# Altium integrated library TI Digital Signal Processor 32-Bit.IntLib: 121 symbols (part 10 of 13)
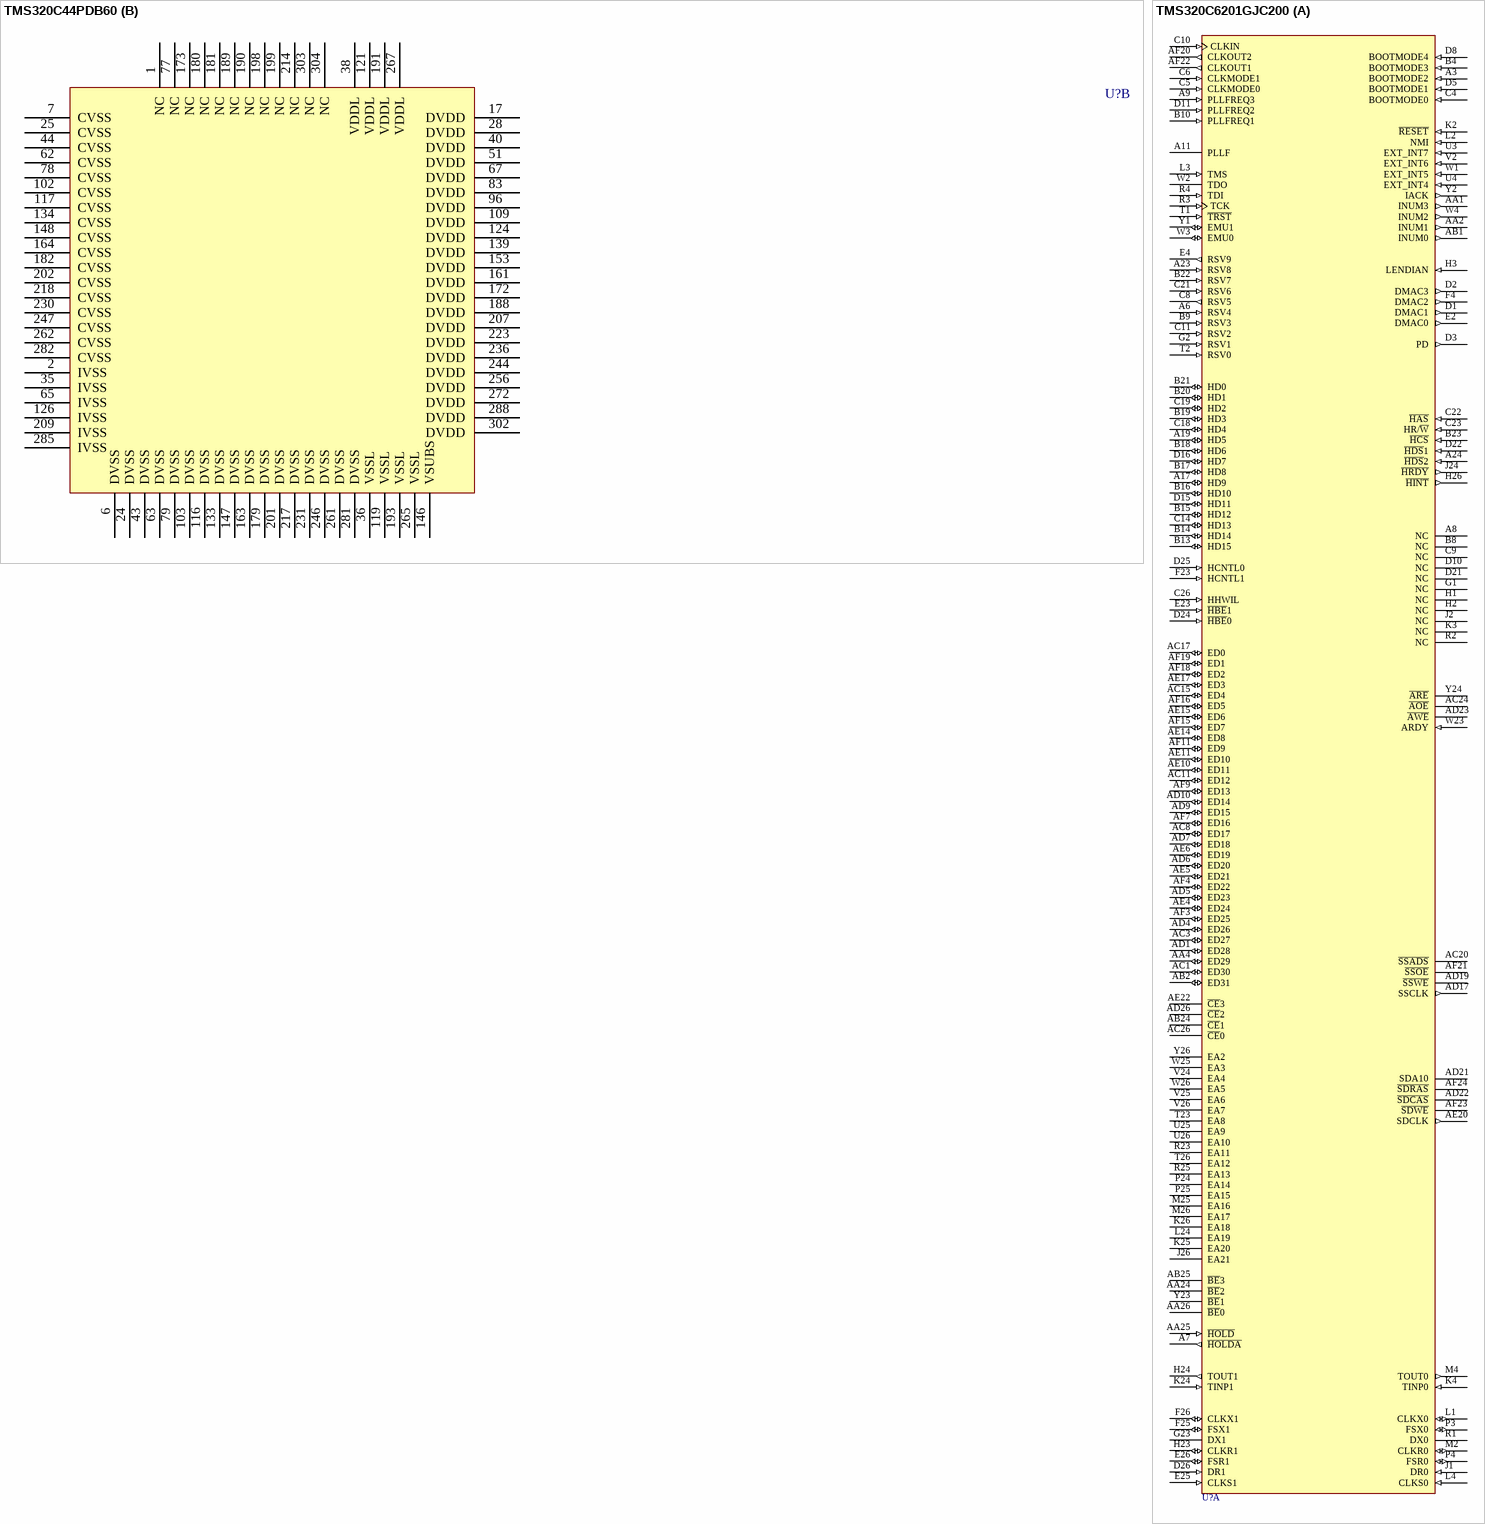
[diagram p139: symbols TMS320C44PDB60 to TMS320C6201GJC200]

## TMS320C44PDB60
designator U?
Floating DSP; Published: 25-Jan-2001; LatestRevisionDate: 13-Apr-2006; LatestRevisionNote: IPC-7351 Footprint Added.; DatasheetVersion: Dec-1995; PackageVersion: May-1999; PackageReference: PDB304; Publisher: Altium Limited; PackageDescription: 304-Pin Shrink Quad Flat Pack 0.5 mm Pitch; ComponentLink1Description: Manufacturer Link; ComponentLink1URL: http://www.ti.com/; ComponentLink2Description: Datasheet; ComponentLink2URL: http://www-s.ti.com/sc/ds/tms320c44.pdf
footprint PDB304_N (Shrink QFP, 304-Leads, Body 40x40mm, Pitch 0.5mm, IPC Medium Density)
footprint PDB304_L (Shrink QFP, 304-Leads, Body 40x40mm, Pitch 0.5mm, IPC High Density)
footprint PDB304_M (Shrink QFP, 304-Leads, Body 40x40mm, Pitch 0.5mm, IPC Low Density)
3D model TMS320C44-PDB304 (304-Pin Shrink Quad Flat Pack 0.5 mm Pitch)
part A pins: 3 ~{NMI} (in), 4 ~{IIOF}3 (io), 5 ~{IIOF}2 (io), 8 ~{CRDY}1 (io), 9 ~{IIOF}1 (io), 10 ~{IIOF}0 (io), 11 ~{CREQ}1 (io), 12 ROMEN (in), 13 ~{CACK}1 (io), 14 ~{CSTB}1 (io), 15 CDIR5 (out), 16 CDIR4 (out), 18 CDIR2 (out), 19 CDIR1 (out), 20 ~{CREQ}2 (io), 21 ~{CACK}2 (io), 22 ~{CSTB}2 (io), 23 ~{CRDY}2 (io), 26 C2D0 (io), 27 C2D1 (io), 29 C2D2 (io), 30 C2D3 (io), 31 C2D4 (io), 32 C2D5 (io), 33 C2D6 (io), 34 C2D7 (io), 37 C5D0 (io), 39 C5D1 (io), 41 C5D2 (io), 42 C5D3 (io), 45 C5D4 (io), 46 C5D5 (io), 47 C5D6 (io), 48 C5D7 (io), 49 ~{CREQ}5 (io), 50 ~{CACK}5 (io), 52 ~{CSTB}5 (io), 53 ~{CRDY}5 (io), 54 ~{RESET} (in), 55 RESETLOC0 (in), 56 RESETLOC1 (in), 57 ~{AE} (in), 58 ~{STRB}0 (hiz), 59 R/~{W}0 (hiz), 60 PAGE0 (hiz), 61 STAT3 (out), 64 STAT2 (out), 66 STAT1 (out), 68 STAT0 (out), 69 ~{STRB}1 (hiz), 70 R/~{W}1 (hiz), 71 ~{CREQ}4 (io), 72 PAGE1 (hiz), 73 ~{CACK}4 (io), 74 EMU1 (io), 75 EMU0 (io), 76 TDI (in), 80 TDO (hiz), 81 ~{TRST} (in), 82 TMS (in), 84 ~{CSTB}4 (io), 85 ~{CRDY}4 (io), 86 TCK (in), 87 C4D0 (io), 88 C4D1 (io), 89 ~{DE} (in), 90 C4D2 (io), 91 ~{RDY}0 (in), 92 C4D3 (io), 93 ~{CE}0 (in), 94 C4D4 (io), 95 ~{LOCK} (out), 97 C4D5 (io), 98 ~{RDY}1 (in), 99 C4D6 (io), 100 C4D7 (io), 101 ~{CE1} (in), 104 D0 (io), 105 D1 (io), 106 D2 (io), 107 D3 (io), 108 D4 (io), 110 D5 (io), 111 D6 (io), 112 D7 (io), 113 D8 (io), 114 D9 (io), 115 D10 (io), 118 D11 (io), 120 D12 (io), 122 D13 (io), 123 D14 (io), 125 D15 (io), 127 D16 (io), 128 D17 (io), 129 D18 (io), 130 D19 (io), 131 D20 (io), 132 D21 (io), 135 D22 (io), 136 D23 (io), 137 D24 (io), 138 D25 (io), 140 D26 (io), 141 D27 (io), 142 D28 (io), 143 D29 (io), 144 D30 (io), 145 D31 (io), 149 A0 (hiz), 150 A1 (hiz), 151 A2 (hiz), 152 A3 (hiz), 154 A4 (hiz), 155 A5 (hiz), 156 A6 (hiz), 157 A7 (hiz), 158 A8 (hiz), 159 A9 (hiz), 160 A10 (hiz), 162 A11 (hiz), 165 A12 (hiz), 166 A13 (hiz), 167 A14 (hiz), 168 A15 (hiz), 169 A16 (hiz), 170 A17 (hiz), 171 A18 (hiz), 174 A19 (hiz), 175 A20 (hiz), 176 A21 (hiz), 177 A22 (hiz), 178 A23 (hiz), 183 LD0 (io), 184 LD1 (io), 185 LD2 (io), 186 LD3 (io), 187 LD4 (io), 192 LD5 (io), 194 LD6 (io), 195 LD7 (io), 196 LD8 (io), 197 LD9 (io), 200 LD10 (io), 203 LD11 (io), 204 LD12 (io), 205 LD13 (io), 206 LD14 (io), 208 LD15 (io), 210 LD16 (io), 211 LD17 (io), 212 LD18 (io), 213 LD19 (io), 215 LD20 (io), 216 LD21 (io), 219 LD22 (io), 220 LD23 (io), 221 LD24 (io), 222 LD25 (io), 224 LD26 (io), 225 LD27 (io), 226 LD28 (io), 227 LD29 (io), 228 LD30 (io), 229 LD31 (io), 232 LA0 (hiz), 233 LA1 (hiz), 234 LA2 (hiz), 235 LA3 (hiz), 237 LA4 (hiz), 238 LA5 (hiz), 239 LA6 (hiz), 240 LA7 (hiz), 241 LA8 (hiz), 242 LA9 (hiz), 243 LA10 (hiz), 245 LA11 (hiz), 248 LA12 (hiz), 249 LA13 (hiz), 250 LA14 (hiz), 251 LA15 (hiz), 252 LA16 (hiz), 253 LA17 (hiz), 254 LA18 (hiz), 255 LA19 (hiz), 257 LA20 (hiz), 258 LA21 (hiz), 259 LA22 (hiz), 260 LA23 (hiz), 263 X2/CLKIN (in), 264 X1 (out), 266 H1 (out), 268 H3 (out), 269 C1D0 (io), 270 ~{IACK} (out), 271 C1D1 (io), 273 LSTAT3 (out), 274 C1D2 (io), 275 LSTAT2 (out), 276 C1D3 (io), 277 LSTAT1 (out), 278 C1D4 (io), 279 LSTAT0 (out), 280 C1D5 (io), 283 C1D6 (io), 284 ~{LLOCK} (out), 286 C1D7 (io), 287 ~{LAE} (in), 289 TCLK1 (io), 290 TCLK0 (io), 291 ~{LDE} (in), 292 ~{LCE}1 (in), 293 ~{LRDY}1 (in), 294 LPAGE1 (hiz), 295 LR/~{W}1 (hiz), 296 ~{LSTB}1 (hiz), 297 ~{LCE}0 (in), 298 ~{LRDY}0 (in), 299 LPAGE0 (hiz), 300 LR/~{W}0 (hiz), 301 ~{LSTB}0 (hiz)
part B pins: 1 NC, 2 IVSS (power), 6 DVSS (power), 7 CVSS (power), 17 DVDD (power), 24 DVSS (power), 25 CVSS (power), 28 DVDD (power), 35 IVSS (power), 36 VSSL (power), 38 VDDL (power), 40 DVDD (power), 43 DVSS (power), 44 CVSS (power), 51 DVDD (power), 62 CVSS (power), 63 DVSS (power), 65 IVSS (power), 67 DVDD (power), 77 NC, 78 CVSS (power), 79 DVSS (power), 83 DVDD (power), 96 DVDD (power), 102 CVSS (power), 103 DVSS (power), 109 DVDD (power), 116 DVSS (power), 117 CVSS (power), 119 VSSL (power), 121 VDDL (power), 124 DVDD (power), 126 IVSS (power), 133 DVSS (power), 134 CVSS (power), 139 DVDD (power), 146 VSUBS (power), 147 DVSS (power), 148 CVSS (power), 153 DVDD (power), 161 DVDD (power), 163 DVSS (power), 164 CVSS (power), 172 DVDD (power), 173 NC, 179 DVSS (power), 180 NC, 181 NC, 182 CVSS (power), 188 DVDD (power), 189 NC, 190 NC, 191 VDDL (power), 193 VSSL (power), 198 NC, 199 NC, 201 DVSS (power), 202 CVSS (power), 207 DVDD (power), 209 IVSS (power), 214 NC, 217 DVSS (power), 218 CVSS (power), 223 DVDD (power), 230 CVSS (power), 231 DVSS (power), 236 DVDD (power), 244 DVDD (power), 246 DVSS (power), 247 CVSS (power), 256 DVDD (power), 261 DVSS (power), 262 CVSS (power), 265 VSSL (power), 267 VDDL (power), 272 DVDD (power), 281 DVSS (power), 282 CVSS (power), 285 IVSS (power), 288 DVDD (power), 302 DVDD (power), 303 NC, 304 NC

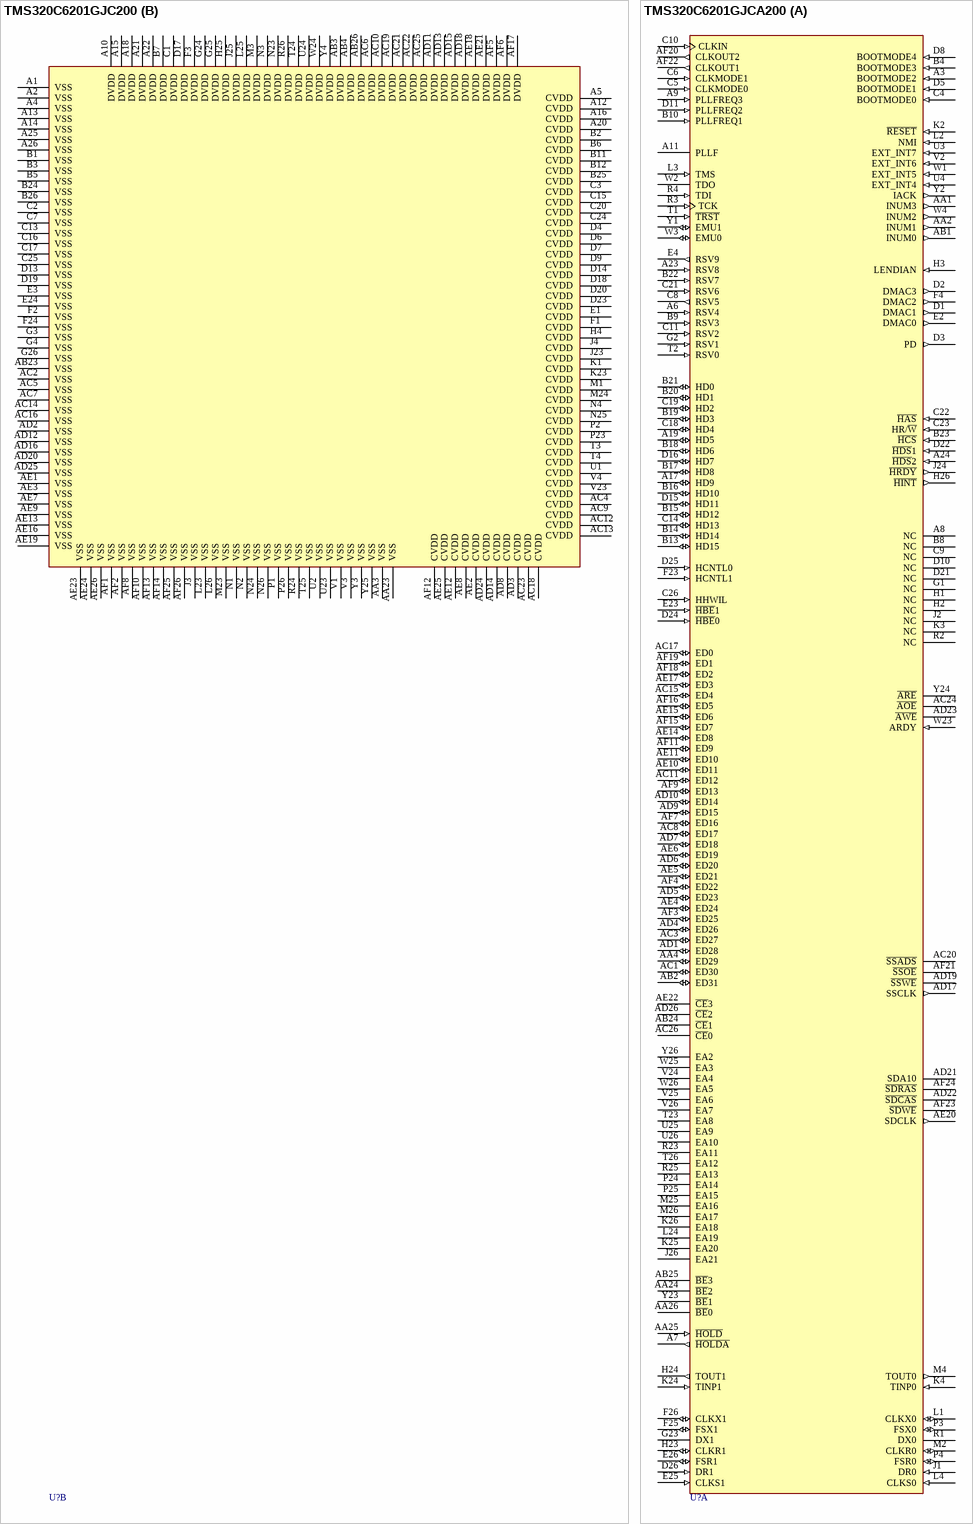
[diagram p111: symbols TMS320C6201GJC200 to TMS320C6201GJCA200]

## TMS320C6201GJC200
designator U?
Fixed-Point, 1.8/3.3V, 1600 MIPS, Multichannel/Multifunction DSP; Note: PLLV and PLLG are not part of external voltage supply or ground.; Published: 25-Jan-2001; LatestRevisionDate: 13-Apr-2006; LatestRevisionNote: IPC-7351 Footprint Added.; DatasheetVersion: Aug-1999; PackageVersion: Jul-1999; PackageReference: GJC352; Publisher: Altium Limited; PackageDescription: 352-Ball Ball Grid Array 1.27 mm Pitch; ComponentLink1Description: Manufacturer Link; ComponentLink1URL: http://www.ti.com/; ComponentLink2Description: Datasheet; ComponentLink2URL: http://www-s.ti.com/sc/ds/tms320c6201.pdf
footprint GJC352 (BGA, 352-Leads, Body 35x35mm, Pitch 1.27mm)
3D model TMS320C6201-GJC352 (352-Ball Ball Grid Array 1.27 mm Pitch)
part A pins: A3 BOOTMODE2 (in), A6 RSV4 (in), A7 ~{HOLDA} (out), A8 NC, A9 PLLFREQ3 (in), A11 PLLF, A17 HD9 (io), A19 HD5 (io), A23 RSV8 (in), A24 ~{HDS}2 (in), AA1 INUM3 (out), AA2 INUM1 (out), AA4 ED29 (io), AA24 ~{BE}2 (hiz), AA25 ~{HOLD} (in), AA26 ~{BE}0 (hiz), AB1 INUM0 (out), AB2 ED31 (io), AB24 ~{CE}1 (hiz), AB25 ~{BE}3 (hiz), AC1 ED30 (io), AC3 ED27 (io), AC8 ED17 (io), AC11 ED12 (io), AC15 ED4 (io), AC17 ED0 (io), AC20 ~{SSADS} (hiz), AC24 ~{AOE} (hiz), AC26 ~{CE}0 (hiz), AD1 ED28 (io), AD4 ED26 (io), AD5 ED23 (io), AD6 ED20 (io), AD7 ED18 (io), AD9 ED15 (io), AD10 ED14 (io), AD17 SSCLK (out), AD19 ~{SSWE} (hiz), AD21 SDA10 (hiz), AD22 ~{SDCAS} (hiz), AD23 ~{AWE} (hiz), AD26 ~{CE}2 (hiz), AE4 ED24 (io), AE5 ED21 (io), AE6 ED19 (io), AE10 ED11 (io), AE11 ED10 (io), AE14 ED8 (io), AE15 ED6 (io), AE17 ED3 (io), AE20 SDCLK (out), AE22 ~{CE}3 (hiz), AF3 ED25 (io), AF4 ED22 (io), AF7 ED16 (io), AF9 ED13 (io), AF11 ED9 (io), AF15 ED7 (io), AF16 ED5 (io), AF18 ED2 (io), AF19 ED1 (io), AF20 CLKOUT2 (out), AF21 ~{SSOE} (hiz), AF22 CLKOUT1 (out), AF23 ~{SDWE} (hiz), AF24 ~{SDRAS} (hiz), B4 BOOTMODE3 (in), B8 NC, B9 RSV3 (in), B10 PLLFREQ1 (in), B13 HD15 (io), B14 HD14 (io), B15 HD12 (io), B16 HD10 (io), B17 HD8 (io), B18 HD6 (io), B19 HD3 (io), B20 HD1 (io), B21 HD0 (io), B22 RSV7 (in), B23 ~{HCS} (in), C4 BOOTMODE0 (in), C5 CLKMODE0 (in), C6 CLKMODE1 (in), C8 RSV5 (out), C9 NC, C10 CLKIN (in), C11 RSV2 (in), C12 PLLG (power) hidden to PLLG, C14 HD13 (io), C18 HD4 (io), C19 HD2 (io), C21 RSV6 (in), C22 ~{HAS} (in), C23 HR/~{W} (in), C26 HHWIL (in), D1 DMAC1 (out), D2 DMAC3 (out), D3 PD (out), D5 BOOTMODE1 (in), D8 BOOTMODE4 (in), D10 NC, D11 PLLFREQ2 (in), D12 PLLV (power) hidden to PLLV, D15 HD11 (io), D16 HD7 (io), D21 NC, D22 ~{HDS}1 (in), D24 ~{HBE}0 (in), D25 HCNTL0 (in), D26 DR1 (in), E2 DMAC0 (out), E4 RSV9 (out), E23 ~{HBE}1 (in), E25 CLKS1 (in), E26 FSR1 (io), F4 DMAC2 (out), F23 HCNTL1 (in), F25 FSX1 (io), F26 CLKX1 (io), G1 NC, G2 RSV1 (in), G23 DX1 (hiz), H1 NC, H2 NC, H3 LENDIAN (in), H23 CLKR1 (io), H24 TOUT1 (out), H26 ~{HINT} (out), J1 DR0 (in), J2 NC, J24 ~{HRDY} (out), J26 EA21 (hiz), K2 ~{RESET} (in), K3 NC, K4 TINP0 (in), K24 TINP1 (in), K25 EA20 (hiz), K26 EA18 (hiz), L1 CLKX0 (io), L2 NMI (in), L3 TMS (in), L4 CLKS0 (in), L24 EA19 (hiz), M2 CLKR0 (io), M4 TOUT0 (out), M25 EA16 (hiz), M26 EA17 (hiz), P3 FSX0 (io), P4 FSR0 (io), P24 EA14 (hiz), P25 EA15 (hiz), R1 DX0 (hiz), R2 NC, R3 TCK (in), R4 TDI (in), R23 EA11 (hiz), R25 EA13 (hiz), T1 ~{TRST} (in), T2 RSV0 (in), T23 EA8 (hiz), T26 EA12 (hiz), U3 EXT_INT7 (in), U4 EXT_INT4 (in), U25 EA9 (hiz), U26 EA10 (hiz), V2 EXT_INT6 (in), V24 EA4 (hiz), V25 EA6 (hiz), V26 EA7 (hiz), W1 EXT_INT5 (in), W2 TDO (hiz), W3 EMU0 (io), W4 INUM2 (out), W23 ARDY (in), W25 EA3 (hiz), W26 EA5 (hiz), Y1 EMU1 (io), Y2 IACK (out), Y23 ~{BE}1 (hiz), Y24 ~{ARE} (hiz), Y26 EA2 (hiz)
part B pins: A1 VSS (power), A2 VSS (power), A4 VSS (power), A5 CVDD (power), A10 DVDD (power), A12 CVDD (power), A13 VSS (power), A14 VSS (power), A15 DVDD (power), A16 CVDD (power), A18 DVDD (power), A20 CVDD (power), A21 DVDD (power), A22 DVDD (power), A25 VSS (power), A26 VSS (power), AA3 VSS (power), AA23 VSS (power), AB3 DVDD (power), AB4 DVDD (power), AB23 VSS (power), AB26 DVDD (power), AC2 VSS (power), AC4 CVDD (power), AC5 VSS (power), AC6 DVDD (power), AC7 VSS (power), AC9 CVDD (power), AC10 DVDD (power), AC12 CVDD (power), AC13 CVDD (power), AC14 VSS (power), AC16 VSS (power), AC18 CVDD (power), AC19 DVDD (power), AC21 DVDD (power), AC22 DVDD (power), AC23 CVDD (power), AC25 DVDD (power), AD2 VSS (power), AD3 CVDD (power), AD8 CVDD (power), AD11 DVDD (power), AD12 VSS (power), AD13 DVDD (power), AD14 CVDD (power), AD15 DVDD (power), AD16 VSS (power), AD18 DVDD (power), AD20 VSS (power), AD24 CVDD (power), AD25 VSS (power), AE1 VSS (power), AE2 CVDD (power), AE3 VSS (power), AE7 VSS (power), AE8 CVDD (power), AE9 VSS (power), AE12 CVDD (power), AE13 VSS (power), AE16 VSS (power), AE18 DVDD (power), AE19 VSS (power), AE21 DVDD (power), AE23 VSS (power), AE24 VSS (power), AE25 CVDD (power), AE26 VSS (power), AF1 VSS (power), AF2 VSS (power), AF5 DVDD (power), AF6 DVDD (power), AF8 VSS (power), AF10 VSS (power), AF12 CVDD (power), AF13 VSS (power), AF14 VSS (power), AF17 DVDD (power), AF25 VSS (power), AF26 VSS (power), B1 VSS (power), B2 CVDD (power), B3 VSS (power), B5 VSS (power), B6 CVDD (power), B7 DVDD (power), B11 CVDD (power), B12 CVDD (power), B24 VSS (power), B25 CVDD (power), B26 VSS (power), C1 DVDD (power), C2 VSS (power), C3 CVDD (power), C7 VSS (power), C13 VSS (power), C15 CVDD (power), C16 VSS (power), C17 VSS (power), C20 CVDD (power), C24 CVDD (power), C25 VSS (power), D4 CVDD (power), D6 CVDD (power), D7 CVDD (power), D9 CVDD (power), D13 VSS (power), D14 CVDD (power), D17 DVDD (power), D18 CVDD (power), D19 VSS (power), D20 CVDD (power), D23 CVDD (power), E1 CVDD (power), E3 VSS (power), E24 VSS (power), F1 CVDD (power), F2 VSS (power), F3 DVDD (power), F24 VSS (power), G3 VSS (power), G4 VSS (power), G24 DVDD (power), G25 DVDD (power), G26 VSS (power), H4 CVDD (power), H25 DVDD (power), J3 VSS (power), J4 CVDD (power), J23 CVDD (power), J25 DVDD (power), K1 CVDD (power), K23 CVDD (power), L23 VSS (power), L25 DVDD (power), L26 VSS (power), M1 CVDD (power), M3 DVDD (power), M23 VSS (power), M24 CVDD (power), N1 VSS (power), N2 VSS (power), N3 DVDD (power), N4 CVDD (power), N23 DVDD (power), N24 VSS (power), N25 CVDD (power), N26 VSS (power), P1 VSS (power), P2 CVDD (power), P23 CVDD (power), P26 VSS (power), R24 VSS (power), R26 DVDD (power), T3 CVDD (power), T4 CVDD (power), T24 DVDD (power), T25 VSS (power), U1 CVDD (power), U2 VSS (power), U23 VSS (power), U24 DVDD (power), V1 VSS (power), V3 VSS (power), V4 CVDD (power), V23 CVDD (power), W24 DVDD (power), Y3 VSS (power), Y4 DVDD (power), Y25 VSS (power)

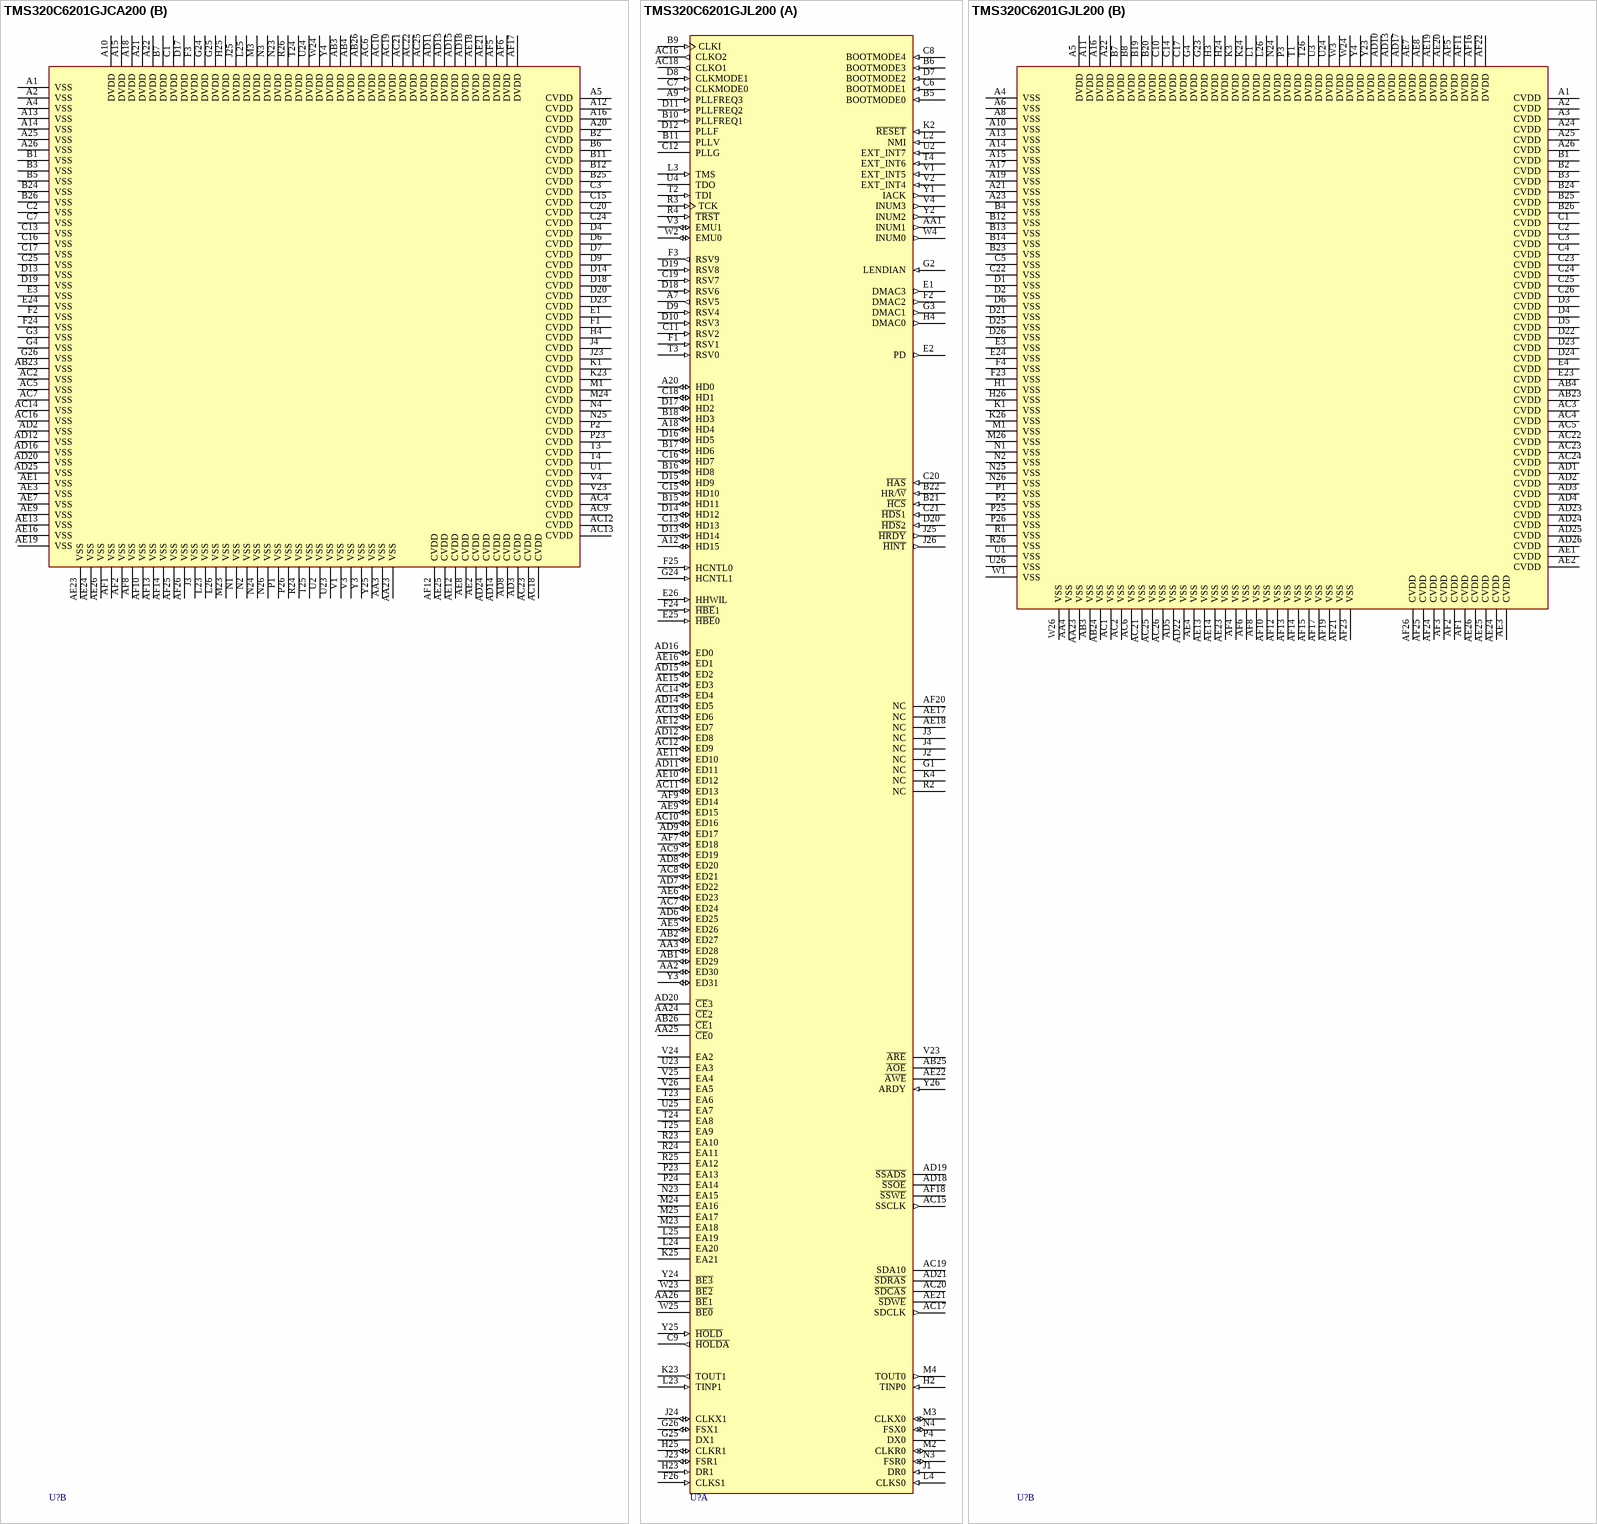
[diagram p112: symbols TMS320C6201GJCA200 to TMS320C6201GJL200]

## TMS320C6201GJCA200
designator U?
Fixed-Point, 1.8/3.3V, 1600 MIPS, Multichannel/Multifunction DSP; Note: PLLV and PLLG are not part of external voltage supply or ground.; Published: 25-Jan-2001; LatestRevisionDate: 13-Apr-2006; LatestRevisionNote: IPC-7351 Footprint Added.; DatasheetVersion: Aug-1999; PackageVersion: Jul-1999; PackageReference: GJC352; Publisher: Altium Limited; PackageDescription: 352-Ball Ball Grid Array 1.27 mm Pitch; ComponentLink1Description: Manufacturer Link; ComponentLink1URL: http://www.ti.com/; ComponentLink2Description: Datasheet; ComponentLink2URL: http://www-s.ti.com/sc/ds/tms320c6201.pdf
footprint GJC352 (BGA, 352-Leads, Body 35x35mm, Pitch 1.27mm)
3D model TMS320C6201-GJC352 (352-Ball Ball Grid Array 1.27 mm Pitch)
part A pins: A3 BOOTMODE2 (in), A6 RSV4 (in), A7 ~{HOLDA} (out), A8 NC, A9 PLLFREQ3 (in), A11 PLLF, A17 HD9 (io), A19 HD5 (io), A23 RSV8 (in), A24 ~{HDS}2 (in), AA1 INUM3 (out), AA2 INUM1 (out), AA4 ED29 (io), AA24 ~{BE}2 (hiz), AA25 ~{HOLD} (in), AA26 ~{BE}0 (hiz), AB1 INUM0 (out), AB2 ED31 (io), AB24 ~{CE}1 (hiz), AB25 ~{BE}3 (hiz), AC1 ED30 (io), AC3 ED27 (io), AC8 ED17 (io), AC11 ED12 (io), AC15 ED4 (io), AC17 ED0 (io), AC20 ~{SSADS} (hiz), AC24 ~{AOE} (hiz), AC26 ~{CE}0 (hiz), AD1 ED28 (io), AD4 ED26 (io), AD5 ED23 (io), AD6 ED20 (io), AD7 ED18 (io), AD9 ED15 (io), AD10 ED14 (io), AD17 SSCLK (out), AD19 ~{SSWE} (hiz), AD21 SDA10 (hiz), AD22 ~{SDCAS} (hiz), AD23 ~{AWE} (hiz), AD26 ~{CE}2 (hiz), AE4 ED24 (io), AE5 ED21 (io), AE6 ED19 (io), AE10 ED11 (io), AE11 ED10 (io), AE14 ED8 (io), AE15 ED6 (io), AE17 ED3 (io), AE20 SDCLK (out), AE22 ~{CE}3 (hiz), AF3 ED25 (io), AF4 ED22 (io), AF7 ED16 (io), AF9 ED13 (io), AF11 ED9 (io), AF15 ED7 (io), AF16 ED5 (io), AF18 ED2 (io), AF19 ED1 (io), AF20 CLKOUT2 (out), AF21 ~{SSOE} (hiz), AF22 CLKOUT1 (out), AF23 ~{SDWE} (hiz), AF24 ~{SDRAS} (hiz), B4 BOOTMODE3 (in), B8 NC, B9 RSV3 (in), B10 PLLFREQ1 (in), B13 HD15 (io), B14 HD14 (io), B15 HD12 (io), B16 HD10 (io), B17 HD8 (io), B18 HD6 (io), B19 HD3 (io), B20 HD1 (io), B21 HD0 (io), B22 RSV7 (in), B23 ~{HCS} (in), C4 BOOTMODE0 (in), C5 CLKMODE0 (in), C6 CLKMODE1 (in), C8 RSV5 (out), C9 NC, C10 CLKIN (in), C11 RSV2 (in), C12 PLLG (power) hidden to PLLG, C14 HD13 (io), C18 HD4 (io), C19 HD2 (io), C21 RSV6 (in), C22 ~{HAS} (in), C23 HR/~{W} (in), C26 HHWIL (in), D1 DMAC1 (out), D2 DMAC3 (out), D3 PD (out), D5 BOOTMODE1 (in), D8 BOOTMODE4 (in), D10 NC, D11 PLLFREQ2 (in), D12 PLLV (power) hidden to PLLV, D15 HD11 (io), D16 HD7 (io), D21 NC, D22 ~{HDS}1 (in), D24 ~{HBE}0 (in), D25 HCNTL0 (in), D26 DR1 (in), E2 DMAC0 (out), E4 RSV9 (out), E23 ~{HBE}1 (in), E25 CLKS1 (in), E26 FSR1 (io), F4 DMAC2 (out), F23 HCNTL1 (in), F25 FSX1 (io), F26 CLKX1 (io), G1 NC, G2 RSV1 (in), G23 DX1 (hiz), H1 NC, H2 NC, H3 LENDIAN (in), H23 CLKR1 (io), H24 TOUT1 (out), H26 ~{HINT} (out), J1 DR0 (in), J2 NC, J24 ~{HRDY} (out), J26 EA21 (hiz), K2 ~{RESET} (in), K3 NC, K4 TINP0 (in), K24 TINP1 (in), K25 EA20 (hiz), K26 EA18 (hiz), L1 CLKX0 (io), L2 NMI (in), L3 TMS (in), L4 CLKS0 (in), L24 EA19 (hiz), M2 CLKR0 (io), M4 TOUT0 (out), M25 EA16 (hiz), M26 EA17 (hiz), P3 FSX0 (io), P4 FSR0 (io), P24 EA14 (hiz), P25 EA15 (hiz), R1 DX0 (hiz), R2 NC, R3 TCK (in), R4 TDI (in), R23 EA11 (hiz), R25 EA13 (hiz), T1 ~{TRST} (in), T2 RSV0 (in), T23 EA8 (hiz), T26 EA12 (hiz), U3 EXT_INT7 (in), U4 EXT_INT4 (in), U25 EA9 (hiz), U26 EA10 (hiz), V2 EXT_INT6 (in), V24 EA4 (hiz), V25 EA6 (hiz), V26 EA7 (hiz), W1 EXT_INT5 (in), W2 TDO (hiz), W3 EMU0 (io), W4 INUM2 (out), W23 ARDY (in), W25 EA3 (hiz), W26 EA5 (hiz), Y1 EMU1 (io), Y2 IACK (out), Y23 ~{BE}1 (hiz), Y24 ~{ARE} (hiz), Y26 EA2 (hiz)
part B pins: A1 VSS (power), A2 VSS (power), A4 VSS (power), A5 CVDD (power), A10 DVDD (power), A12 CVDD (power), A13 VSS (power), A14 VSS (power), A15 DVDD (power), A16 CVDD (power), A18 DVDD (power), A20 CVDD (power), A21 DVDD (power), A22 DVDD (power), A25 VSS (power), A26 VSS (power), AA3 VSS (power), AA23 VSS (power), AB3 DVDD (power), AB4 DVDD (power), AB23 VSS (power), AB26 DVDD (power), AC2 VSS (power), AC4 CVDD (power), AC5 VSS (power), AC6 DVDD (power), AC7 VSS (power), AC9 CVDD (power), AC10 DVDD (power), AC12 CVDD (power), AC13 CVDD (power), AC14 VSS (power), AC16 VSS (power), AC18 CVDD (power), AC19 DVDD (power), AC21 DVDD (power), AC22 DVDD (power), AC23 CVDD (power), AC25 DVDD (power), AD2 VSS (power), AD3 CVDD (power), AD8 CVDD (power), AD11 DVDD (power), AD12 VSS (power), AD13 DVDD (power), AD14 CVDD (power), AD15 DVDD (power), AD16 VSS (power), AD18 DVDD (power), AD20 VSS (power), AD24 CVDD (power), AD25 VSS (power), AE1 VSS (power), AE2 CVDD (power), AE3 VSS (power), AE7 VSS (power), AE8 CVDD (power), AE9 VSS (power), AE12 CVDD (power), AE13 VSS (power), AE16 VSS (power), AE18 DVDD (power), AE19 VSS (power), AE21 DVDD (power), AE23 VSS (power), AE24 VSS (power), AE25 CVDD (power), AE26 VSS (power), AF1 VSS (power), AF2 VSS (power), AF5 DVDD (power), AF6 DVDD (power), AF8 VSS (power), AF10 VSS (power), AF12 CVDD (power), AF13 VSS (power), AF14 VSS (power), AF17 DVDD (power), AF25 VSS (power), AF26 VSS (power), B1 VSS (power), B2 CVDD (power), B3 VSS (power), B5 VSS (power), B6 CVDD (power), B7 DVDD (power), B11 CVDD (power), B12 CVDD (power), B24 VSS (power), B25 CVDD (power), B26 VSS (power), C1 DVDD (power), C2 VSS (power), C3 CVDD (power), C7 VSS (power), C13 VSS (power), C15 CVDD (power), C16 VSS (power), C17 VSS (power), C20 CVDD (power), C24 CVDD (power), C25 VSS (power), D4 CVDD (power), D6 CVDD (power), D7 CVDD (power), D9 CVDD (power), D13 VSS (power), D14 CVDD (power), D17 DVDD (power), D18 CVDD (power), D19 VSS (power), D20 CVDD (power), D23 CVDD (power), E1 CVDD (power), E3 VSS (power), E24 VSS (power), F1 CVDD (power), F2 VSS (power), F3 DVDD (power), F24 VSS (power), G3 VSS (power), G4 VSS (power), G24 DVDD (power), G25 DVDD (power), G26 VSS (power), H4 CVDD (power), H25 DVDD (power), J3 VSS (power), J4 CVDD (power), J23 CVDD (power), J25 DVDD (power), K1 CVDD (power), K23 CVDD (power), L23 VSS (power), L25 DVDD (power), L26 VSS (power), M1 CVDD (power), M3 DVDD (power), M23 VSS (power), M24 CVDD (power), N1 VSS (power), N2 VSS (power), N3 DVDD (power), N4 CVDD (power), N23 DVDD (power), N24 VSS (power), N25 CVDD (power), N26 VSS (power), P1 VSS (power), P2 CVDD (power), P23 CVDD (power), P26 VSS (power), R24 VSS (power), R26 DVDD (power), T3 CVDD (power), T4 CVDD (power), T24 DVDD (power), T25 VSS (power), U1 CVDD (power), U2 VSS (power), U23 VSS (power), U24 DVDD (power), V1 VSS (power), V3 VSS (power), V4 CVDD (power), V23 CVDD (power), W24 DVDD (power), Y3 VSS (power), Y4 DVDD (power), Y25 VSS (power)

## TMS320C6201GJL200
designator U?
Fixed-Point, 1.8/3.3V, 1600 MIPS, Multichannel/Multifunction DSP; Note: PLLV and PLLG are not part of external voltage supply or ground.; Published: 25-Jan-2001; LatestRevisionDate: 13-Apr-2006; LatestRevisionNote: IPC-7351 Footprint Added.; DatasheetVersion: Aug-1999; PackageVersion: Feb-2000; PackageReference: GJL352; Publisher: Altium Limited; PackageDescription: 352-Ball Ball Grid Array 1 mm Pitch; ComponentLink1Description: Manufacturer Link; ComponentLink1URL: http://www.ti.com/; ComponentLink2Description: Datasheet; ComponentLink2URL: http://www-s.ti.com/sc/ds/tms320c6201.pdf
footprint GJL352 (BGA, 352-Leads, Body 27x27mm, Pitch 1mm)
3D model TMS320C6201-GJL352 (352-Ball Ball Grid Array 1 mm Pitch)
part A pins: A7 RSV5 (out), A9 PLLFREQ3 (in), A12 HD15 (io), A18 HD4 (io), A20 HD0 (io), AA1 INUM1 (out), AA2 ED30 (io), AA3 ED28 (io), AA24 ~{CE}2 (hiz), AA25 ~{CE}0 (hiz), AA26 ~{BE}1 (hiz), AB1 ED29 (io), AB2 ED27 (io), AB25 ~{AOE} (hiz), AB26 ~{CE}1 (hiz), AC7 ED24 (io), AC8 ED21 (io), AC9 ED19 (io), AC10 ED16 (io), AC11 ED13 (io), AC12 ED9 (io), AC13 ED6 (io), AC14 ED4 (io), AC15 SSCLK (out), AC16 CLKO2 (out), AC17 SDCLK (out), AC18 CLKO1 (out), AC19 SDA10 (hiz), AC20 ~{SDCAS} (hiz), AD6 ED25 (io), AD7 ED22 (io), AD8 ED20 (io), AD9 ED17 (io), AD11 ED11 (io), AD12 ED8 (io), AD14 ED5 (io), AD15 ED2 (io), AD16 ED0 (io), AD18 ~{SSOE} (hiz), AD19 ~{SSADS} (hiz), AD20 ~{CE}3 (hiz), AD21 ~{SDRAS} (hiz), AE5 ED26 (io), AE6 ED23 (io), AE9 ED15 (io), AE10 ED12 (io), AE11 ED10 (io), AE12 ED7 (io), AE15 ED3 (io), AE16 ED1 (io), AE17 NC, AE18 NC, AE21 ~{SDWE} (hiz), AE22 ~{AWE} (hiz), AF7 ED18 (io), AF9 ED14 (io), AF18 ~{SSWE} (hiz), AF20 NC, B5 BOOTMODE0 (in), B6 BOOTMODE3 (in), B9 CLKI (in), B10 PLLFREQ1 (in), B11 PLLV (power), B15 HD11 (io), B16 HD8 (io), B17 HD6 (io), B18 HD3 (io), B21 ~{HCS} (in), B22 HR/~{W} (in), C6 BOOTMODE1 (in), C7 CLKMODE0 (in), C8 BOOTMODE4 (in), C9 ~{HOLDA} (out), C11 RSV2 (in), C12 PLLG (power), C13 HD13 (io), C15 HD10 (io), C16 HD7 (io), C18 HD1 (io), C19 RSV7 (in), C20 ~{HAS} (in), C21 ~{HDS}1 (in), D7 BOOTMODE2 (in), D8 CLKMODE1 (in), D9 RSV4 (in), D10 RSV3 (in), D11 PLLFREQ2 (in), D12 PLLF, D13 HD14 (io), D14 HD12 (io), D15 HD9 (io), D16 HD5 (io), D17 HD2 (io), D18 RSV6 (in), D19 RSV8 (in), D20 ~{HDS}2 (in), E1 DMAC3 (out), E2 PD (out), E25 ~{HBE}0 (in), E26 HHWIL (in), F1 RSV1 (in), F2 DMAC2 (out), F3 RSV9 (out), F24 ~{HBE}1 (in), F25 HCNTL0 (in), F26 CLKS1 (in), G1 NC, G2 LENDIAN (in), G3 DMAC1 (out), G24 HCNTL1 (in), G25 DX1 (hiz), G26 FSX1 (io), H2 TINP0 (in), H4 DMAC0 (out), H23 DR1 (in), H25 CLKR1 (io), J1 DR0 (in), J2 NC, J3 NC, J4 NC, J23 FSR1 (io), J24 CLKX1 (io), J25 ~{HRDY} (out), J26 ~{HINT} (out), K2 ~{RESET} (in), K4 NC, K23 TOUT1 (out), K25 EA21 (hiz), L2 NMI (in), L3 TMS (in), L4 CLKS0 (in), L23 TINP1 (in), L24 EA20 (hiz), L25 EA19 (hiz), M2 CLKR0 (io), M3 CLKX0 (io), M4 TOUT0 (out), M23 EA18 (hiz), M24 EA16 (hiz), M25 EA17 (hiz), N3 FSR0 (io), N4 FSX0 (io), N23 EA15 (hiz), P4 DX0 (hiz), P23 EA13 (hiz), P24 EA14 (hiz), R2 NC, R3 TCK (in), R4 ~{TRST} (in), R23 EA10 (hiz), R24 EA11 (hiz), R25 EA12 (hiz), T2 TDI (in), T3 RSV0 (in), T4 EXT_INT6 (in), T23 EA6 (hiz), T24 EA8 (hiz), T25 EA9 (hiz), U2 EXT_INT7 (in), U4 TDO (hiz), U23 EA3 (hiz), U25 EA7 (hiz), V1 EXT_INT5 (in), V2 EXT_INT4 (in), V3 EMU1 (io), V4 INUM3 (out), V23 ~{ARE} (hiz), V24 EA2 (hiz), V25 EA4 (hiz), V26 EA5 (hiz), W2 EMU0 (io), W4 INUM0 (out), W23 ~{BE2} (hiz), W25 ~{BE0} (hiz), Y1 IACK (out), Y2 INUM2 (out), Y3 ED31 (io), Y24 ~{BE3} (hiz), Y25 ~{HOLD} (in), Y26 ARDY (in)
part B pins: A1 CVDD (power), A2 CVDD (power), A3 CVDD (power), A4 VSS (power), A5 DVDD (power), A6 VSS (power), A8 VSS (power), A10 VSS (power), A11 DVDD (power), A13 VSS (power), A14 VSS (power), A15 VSS (power), A16 DVDD (power), A17 VSS (power), A19 VSS (power), A21 VSS (power), A22 DVDD (power), A23 VSS (power), A24 CVDD (power), A25 CVDD (power), A26 CVDD (power), AA4 VSS (power), AA23 VSS (power), AB3 VSS (power), AB4 CVDD (power), AB23 CVDD (power), AB24 VSS (power), AC1 VSS (power), AC2 VSS (power), AC3 CVDD (power), AC4 CVDD (power), AC5 CVDD (power), AC6 VSS (power), AC21 VSS (power), AC22 CVDD (power), AC23 CVDD (power), AC24 CVDD (power), AC25 VSS (power), AC26 VSS (power), AD1 CVDD (power), AD2 CVDD (power), AD3 CVDD (power), AD4 CVDD (power), AD5 VSS (power), AD10 DVDD (power), AD13 DVDD (power), AD17 DVDD (power), AD22 VSS (power), AD23 CVDD (power), AD24 CVDD (power), AD25 CVDD (power), AD26 CVDD (power), AE1 CVDD (power), AE2 CVDD (power), AE3 CVDD (power), AE4 VSS (power), AE7 DVDD (power), AE8 DVDD (power), AE13 VSS (power), AE14 VSS (power), AE19 DVDD (power), AE20 DVDD (power), AE23 VSS (power), AE24 CVDD (power), AE25 CVDD (power), AE26 CVDD (power), AF1 CVDD (power), AF2 CVDD (power), AF3 CVDD (power), AF4 VSS (power), AF5 DVDD (power), AF6 VSS (power), AF8 VSS (power), AF10 VSS (power), AF11 DVDD (power), AF12 VSS (power), AF13 VSS (power), AF14 VSS (power), AF15 VSS (power), AF16 DVDD (power), AF17 VSS (power), AF19 VSS (power), AF21 VSS (power), AF22 DVDD (power), AF23 VSS (power), AF24 CVDD (power), AF25 CVDD (power), AF26 CVDD (power), B1 CVDD (power), B2 CVDD (power), B3 CVDD (power), B4 VSS (power), B7 DVDD (power), B8 DVDD (power), B12 VSS (power), B13 VSS (power), B14 VSS (power), B19 DVDD (power), B20 DVDD (power), B23 VSS (power), B24 CVDD (power), B25 CVDD (power), B26 CVDD (power), C1 CVDD (power), C2 CVDD (power), C3 CVDD (power), C4 CVDD (power), C5 VSS (power), C10 DVDD (power), C14 DVDD (power), C17 DVDD (power), C22 VSS (power), C23 CVDD (power), C24 CVDD (power), C25 CVDD (power), C26 CVDD (power), D1 VSS (power), D2 VSS (power), D3 CVDD (power), D4 CVDD (power), D5 CVDD (power), D6 VSS (power), D21 VSS (power), D22 CVDD (power), D23 CVDD (power), D24 CVDD (power), D25 VSS (power), D26 VSS (power), E3 VSS (power), E4 CVDD (power), E23 CVDD (power), E24 VSS (power), F4 VSS (power), F23 VSS (power), G4 DVDD (power), G23 DVDD (power), H1 VSS (power), H3 DVDD (power), H24 DVDD (power), H26 VSS (power), K1 VSS (power), K3 DVDD (power), K24 DVDD (power), K26 VSS (power), L1 DVDD (power), L26 DVDD (power), M1 VSS (power), M26 VSS (power), N1 VSS (power), N2 VSS (power), N24 DVDD (power), N25 VSS (power), N26 VSS (power), P1 VSS (power), P2 VSS (power), P3 DVDD (power), P25 VSS (power), P26 VSS (power), R1 VSS (power), R26 VSS (power), T1 DVDD (power), T26 DVDD (power), U1 VSS (power), U3 DVDD (power), U24 DVDD (power), U26 VSS (power), W1 VSS (power), W3 DVDD (power), W24 DVDD (power), W26 VSS (power), Y4 DVDD (power), Y23 DVDD (power)

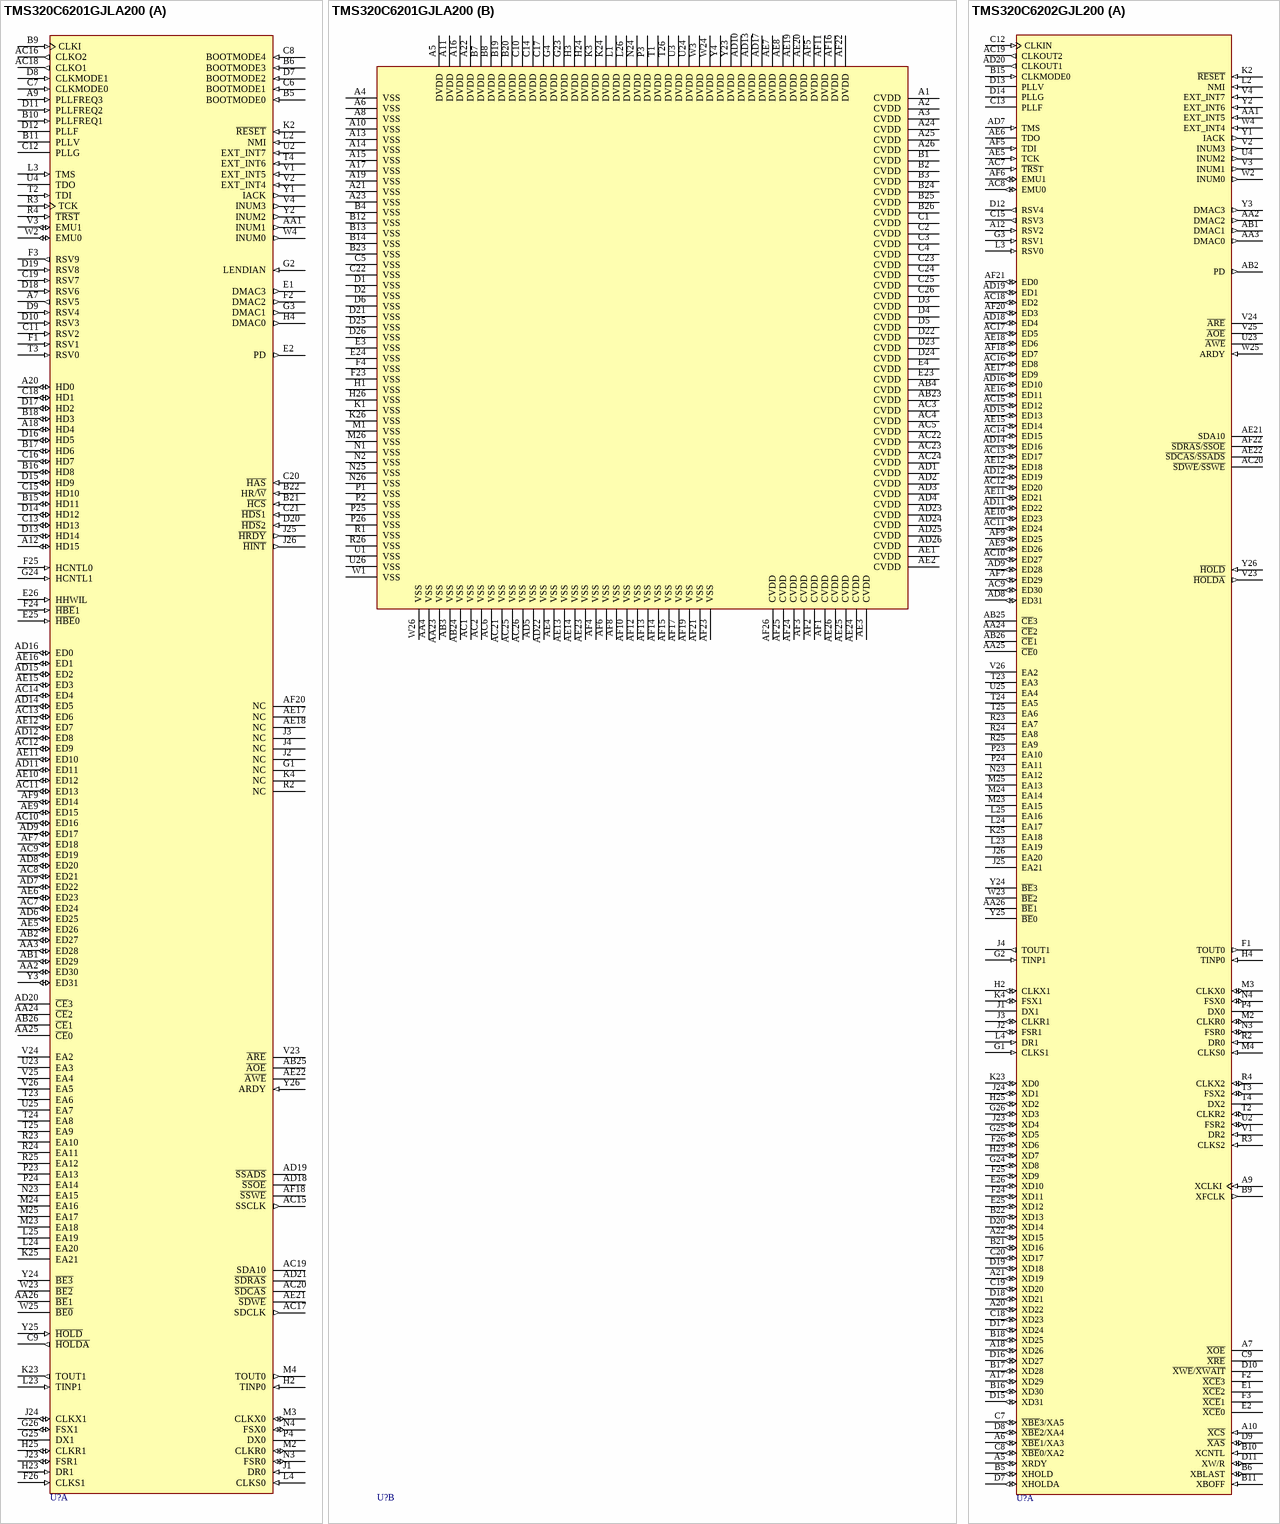
[diagram p113: symbols TMS320C6201GJLA200 to TMS320C6202GJL200]

## TMS320C6201GJLA200
designator U?
Fixed-Point, 1.8/3.3V, 1600 MIPS, Multichannel/Multifunction DSP; Note: PLLV and PLLG are not part of external voltage supply or ground.; Published: 25-Jan-2001; LatestRevisionDate: 13-Apr-2006; LatestRevisionNote: IPC-7351 Footprint Added.; DatasheetVersion: Aug-1999; PackageVersion: Feb-2000; PackageReference: GJL352; Publisher: Altium Limited; PackageDescription: 352-Ball Ball Grid Array 1 mm Pitch; ComponentLink1Description: Manufacturer Link; ComponentLink1URL: http://www.ti.com/; ComponentLink2Description: Datasheet; ComponentLink2URL: http://www-s.ti.com/sc/ds/tms320c6201.pdf
footprint GJL352 (BGA, 352-Leads, Body 27x27mm, Pitch 1mm)
3D model TMS320C6201-GJL352 (352-Ball Ball Grid Array 1 mm Pitch)
part A pins: A7 RSV5 (out), A9 PLLFREQ3 (in), A12 HD15 (io), A18 HD4 (io), A20 HD0 (io), AA1 INUM1 (out), AA2 ED30 (io), AA3 ED28 (io), AA24 ~{CE}2 (hiz), AA25 ~{CE}0 (hiz), AA26 ~{BE}1 (hiz), AB1 ED29 (io), AB2 ED27 (io), AB25 ~{AOE} (hiz), AB26 ~{CE}1 (hiz), AC7 ED24 (io), AC8 ED21 (io), AC9 ED19 (io), AC10 ED16 (io), AC11 ED13 (io), AC12 ED9 (io), AC13 ED6 (io), AC14 ED4 (io), AC15 SSCLK (out), AC16 CLKO2 (out), AC17 SDCLK (out), AC18 CLKO1 (out), AC19 SDA10 (hiz), AC20 ~{SDCAS} (hiz), AD6 ED25 (io), AD7 ED22 (io), AD8 ED20 (io), AD9 ED17 (io), AD11 ED11 (io), AD12 ED8 (io), AD14 ED5 (io), AD15 ED2 (io), AD16 ED0 (io), AD18 ~{SSOE} (hiz), AD19 ~{SSADS} (hiz), AD20 ~{CE}3 (hiz), AD21 ~{SDRAS} (hiz), AE5 ED26 (io), AE6 ED23 (io), AE9 ED15 (io), AE10 ED12 (io), AE11 ED10 (io), AE12 ED7 (io), AE15 ED3 (io), AE16 ED1 (io), AE17 NC, AE18 NC, AE21 ~{SDWE} (hiz), AE22 ~{AWE} (hiz), AF7 ED18 (io), AF9 ED14 (io), AF18 ~{SSWE} (hiz), AF20 NC, B5 BOOTMODE0 (in), B6 BOOTMODE3 (in), B9 CLKI (in), B10 PLLFREQ1 (in), B11 PLLV (power), B15 HD11 (io), B16 HD8 (io), B17 HD6 (io), B18 HD3 (io), B21 ~{HCS} (in), B22 HR/~{W} (in), C6 BOOTMODE1 (in), C7 CLKMODE0 (in), C8 BOOTMODE4 (in), C9 ~{HOLDA} (out), C11 RSV2 (in), C12 PLLG (power), C13 HD13 (io), C15 HD10 (io), C16 HD7 (io), C18 HD1 (io), C19 RSV7 (in), C20 ~{HAS} (in), C21 ~{HDS}1 (in), D7 BOOTMODE2 (in), D8 CLKMODE1 (in), D9 RSV4 (in), D10 RSV3 (in), D11 PLLFREQ2 (in), D12 PLLF, D13 HD14 (io), D14 HD12 (io), D15 HD9 (io), D16 HD5 (io), D17 HD2 (io), D18 RSV6 (in), D19 RSV8 (in), D20 ~{HDS}2 (in), E1 DMAC3 (out), E2 PD (out), E25 ~{HBE}0 (in), E26 HHWIL (in), F1 RSV1 (in), F2 DMAC2 (out), F3 RSV9 (out), F24 ~{HBE}1 (in), F25 HCNTL0 (in), F26 CLKS1 (in), G1 NC, G2 LENDIAN (in), G3 DMAC1 (out), G24 HCNTL1 (in), G25 DX1 (hiz), G26 FSX1 (io), H2 TINP0 (in), H4 DMAC0 (out), H23 DR1 (in), H25 CLKR1 (io), J1 DR0 (in), J2 NC, J3 NC, J4 NC, J23 FSR1 (io), J24 CLKX1 (io), J25 ~{HRDY} (out), J26 ~{HINT} (out), K2 ~{RESET} (in), K4 NC, K23 TOUT1 (out), K25 EA21 (hiz), L2 NMI (in), L3 TMS (in), L4 CLKS0 (in), L23 TINP1 (in), L24 EA20 (hiz), L25 EA19 (hiz), M2 CLKR0 (io), M3 CLKX0 (io), M4 TOUT0 (out), M23 EA18 (hiz), M24 EA16 (hiz), M25 EA17 (hiz), N3 FSR0 (io), N4 FSX0 (io), N23 EA15 (hiz), P4 DX0 (hiz), P23 EA13 (hiz), P24 EA14 (hiz), R2 NC, R3 TCK (in), R4 ~{TRST} (in), R23 EA10 (hiz), R24 EA11 (hiz), R25 EA12 (hiz), T2 TDI (in), T3 RSV0 (in), T4 EXT_INT6 (in), T23 EA6 (hiz), T24 EA8 (hiz), T25 EA9 (hiz), U2 EXT_INT7 (in), U4 TDO (hiz), U23 EA3 (hiz), U25 EA7 (hiz), V1 EXT_INT5 (in), V2 EXT_INT4 (in), V3 EMU1 (io), V4 INUM3 (out), V23 ~{ARE} (hiz), V24 EA2 (hiz), V25 EA4 (hiz), V26 EA5 (hiz), W2 EMU0 (io), W4 INUM0 (out), W23 ~{BE2} (hiz), W25 ~{BE0} (hiz), Y1 IACK (out), Y2 INUM2 (out), Y3 ED31 (io), Y24 ~{BE3} (hiz), Y25 ~{HOLD} (in), Y26 ARDY (in)
part B pins: A1 CVDD (power), A2 CVDD (power), A3 CVDD (power), A4 VSS (power), A5 DVDD (power), A6 VSS (power), A8 VSS (power), A10 VSS (power), A11 DVDD (power), A13 VSS (power), A14 VSS (power), A15 VSS (power), A16 DVDD (power), A17 VSS (power), A19 VSS (power), A21 VSS (power), A22 DVDD (power), A23 VSS (power), A24 CVDD (power), A25 CVDD (power), A26 CVDD (power), AA4 VSS (power), AA23 VSS (power), AB3 VSS (power), AB4 CVDD (power), AB23 CVDD (power), AB24 VSS (power), AC1 VSS (power), AC2 VSS (power), AC3 CVDD (power), AC4 CVDD (power), AC5 CVDD (power), AC6 VSS (power), AC21 VSS (power), AC22 CVDD (power), AC23 CVDD (power), AC24 CVDD (power), AC25 VSS (power), AC26 VSS (power), AD1 CVDD (power), AD2 CVDD (power), AD3 CVDD (power), AD4 CVDD (power), AD5 VSS (power), AD10 DVDD (power), AD13 DVDD (power), AD17 DVDD (power), AD22 VSS (power), AD23 CVDD (power), AD24 CVDD (power), AD25 CVDD (power), AD26 CVDD (power), AE1 CVDD (power), AE2 CVDD (power), AE3 CVDD (power), AE4 VSS (power), AE7 DVDD (power), AE8 DVDD (power), AE13 VSS (power), AE14 VSS (power), AE19 DVDD (power), AE20 DVDD (power), AE23 VSS (power), AE24 CVDD (power), AE25 CVDD (power), AE26 CVDD (power), AF1 CVDD (power), AF2 CVDD (power), AF3 CVDD (power), AF4 VSS (power), AF5 DVDD (power), AF6 VSS (power), AF8 VSS (power), AF10 VSS (power), AF11 DVDD (power), AF12 VSS (power), AF13 VSS (power), AF14 VSS (power), AF15 VSS (power), AF16 DVDD (power), AF17 VSS (power), AF19 VSS (power), AF21 VSS (power), AF22 DVDD (power), AF23 VSS (power), AF24 CVDD (power), AF25 CVDD (power), AF26 CVDD (power), B1 CVDD (power), B2 CVDD (power), B3 CVDD (power), B4 VSS (power), B7 DVDD (power), B8 DVDD (power), B12 VSS (power), B13 VSS (power), B14 VSS (power), B19 DVDD (power), B20 DVDD (power), B23 VSS (power), B24 CVDD (power), B25 CVDD (power), B26 CVDD (power), C1 CVDD (power), C2 CVDD (power), C3 CVDD (power), C4 CVDD (power), C5 VSS (power), C10 DVDD (power), C14 DVDD (power), C17 DVDD (power), C22 VSS (power), C23 CVDD (power), C24 CVDD (power), C25 CVDD (power), C26 CVDD (power), D1 VSS (power), D2 VSS (power), D3 CVDD (power), D4 CVDD (power), D5 CVDD (power), D6 VSS (power), D21 VSS (power), D22 CVDD (power), D23 CVDD (power), D24 CVDD (power), D25 VSS (power), D26 VSS (power), E3 VSS (power), E4 CVDD (power), E23 CVDD (power), E24 VSS (power), F4 VSS (power), F23 VSS (power), G4 DVDD (power), G23 DVDD (power), H1 VSS (power), H3 DVDD (power), H24 DVDD (power), H26 VSS (power), K1 VSS (power), K3 DVDD (power), K24 DVDD (power), K26 VSS (power), L1 DVDD (power), L26 DVDD (power), M1 VSS (power), M26 VSS (power), N1 VSS (power), N2 VSS (power), N24 DVDD (power), N25 VSS (power), N26 VSS (power), P1 VSS (power), P2 VSS (power), P3 DVDD (power), P25 VSS (power), P26 VSS (power), R1 VSS (power), R26 VSS (power), T1 DVDD (power), T26 DVDD (power), U1 VSS (power), U3 DVDD (power), U24 DVDD (power), U26 VSS (power), W1 VSS (power), W3 DVDD (power), W24 DVDD (power), W26 VSS (power), Y4 DVDD (power), Y23 DVDD (power)

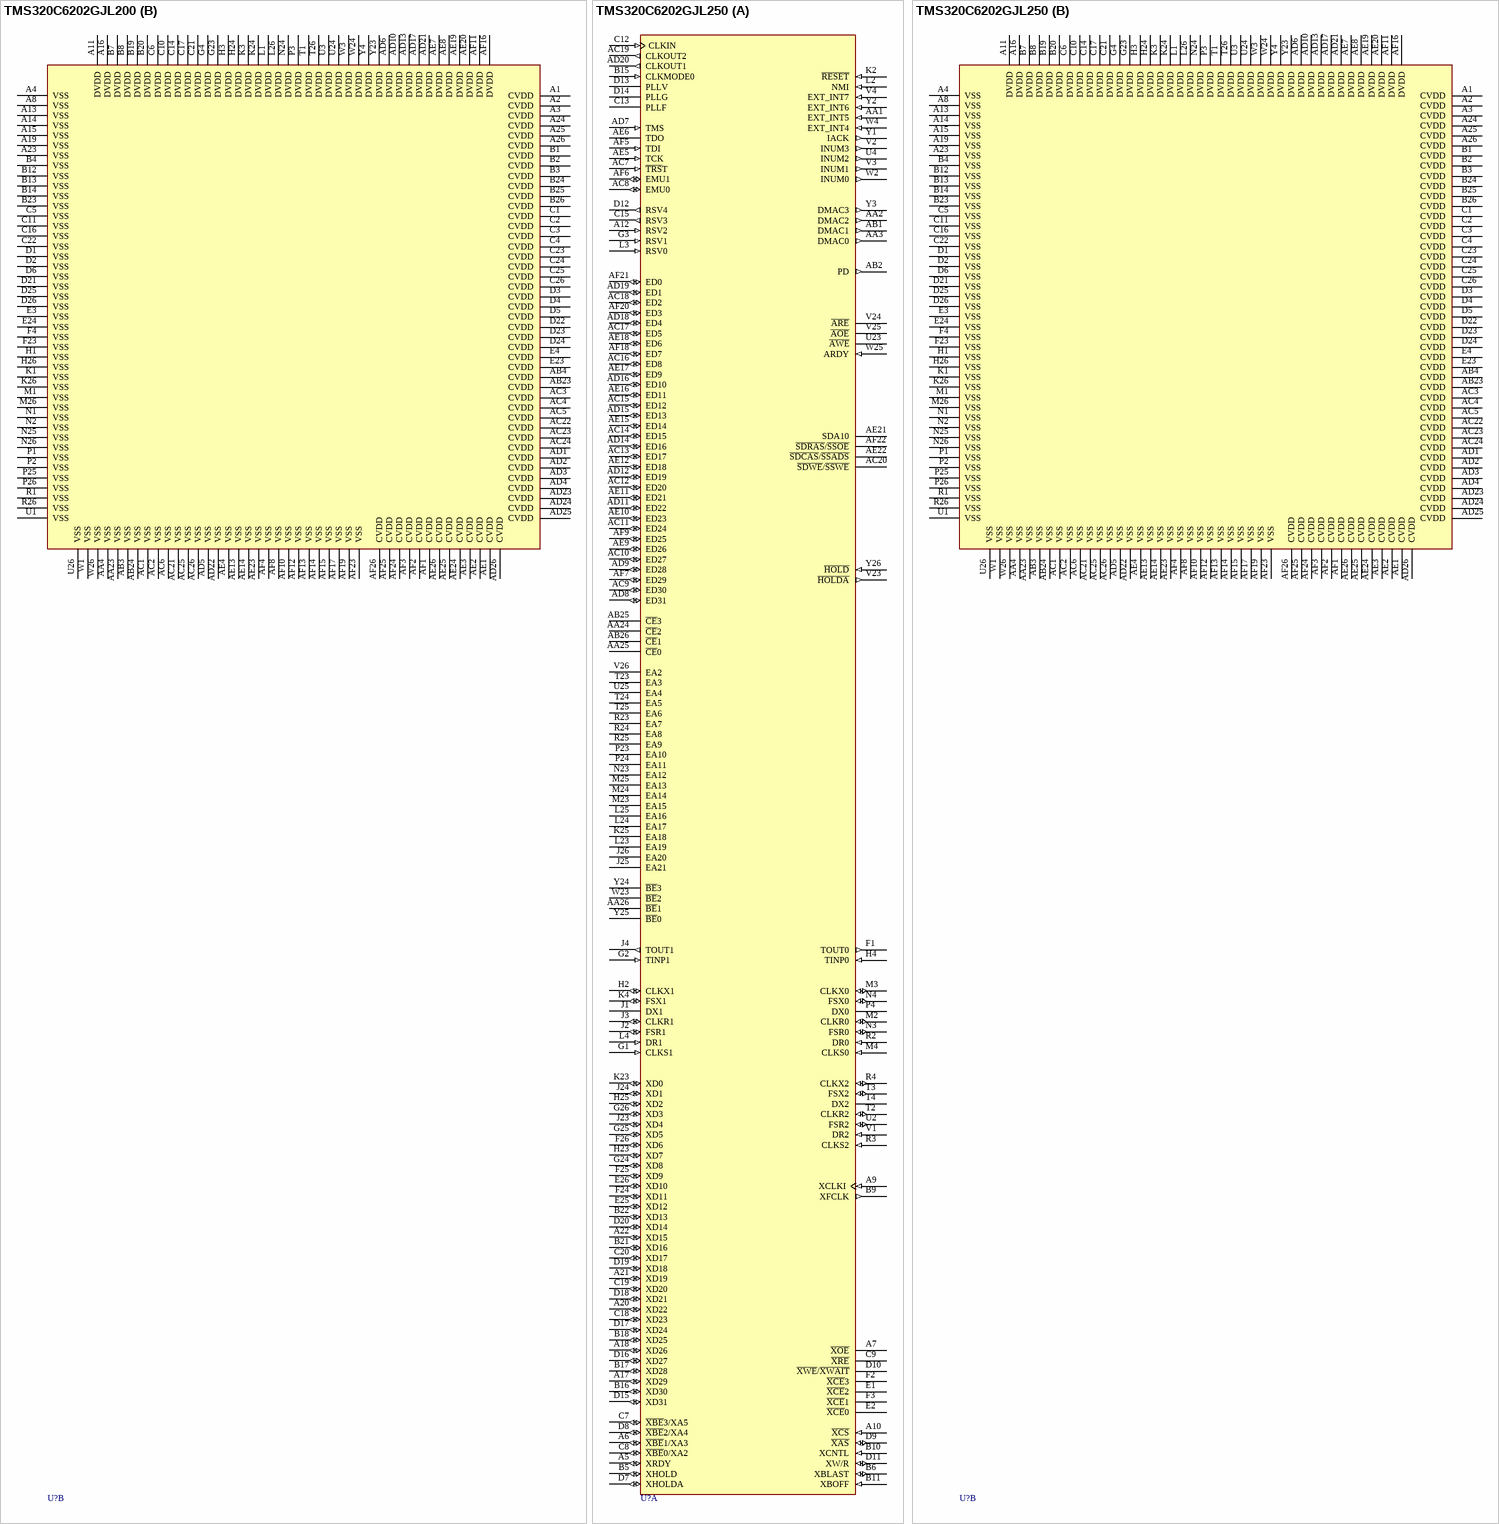
[diagram p114: symbols TMS320C6202GJL200 to TMS320C6202GJL250]

## TMS320C6202GJL200
designator U?
Fixed-Point, 1.8/3.3V, 2000 MIPS, Multichannel/Multifunction DSP; Note: PLLV, PLLG and PLLF are not part of external voltage supply or ground.; Published: 25-Jan-2001; LatestRevisionDate: 13-Apr-2006; LatestRevisionNote: IPC-7351 Footprint Added.; DatasheetVersion: Mar-2000; PackageVersion: Feb-2000; PackageReference: GJL352; Publisher: Altium Limited; PackageDescription: 352-Ball Ball Grid Array 1 mm Pitch; ComponentLink1Description: Manufacturer Link; ComponentLink1URL: http://www.ti.com/; ComponentLink2Description: Datasheet; ComponentLink2URL: http://www-s.ti.com/sc/ds/tms320c6202.pdf
footprint GJL352 (BGA, 352-Leads, Body 27x27mm, Pitch 1mm)
3D model TMS320C6202-GJL352 (352-Ball Ball Grid Array 1 mm Pitch)
part A pins: A5 XRDY (io), A6 ~{XBE}1/XA3 (io), A7 ~{XOE} (hiz), A9 XCLKI (in), A10 ~{XCS} (in), A12 RSV2 (in), A17 XD29 (io), A18 XD26 (io), A20 XD22 (io), A21 XD19 (io), A22 XD15 (io), AA1 EXT_INT5 (in), AA2 DMAC2 (out), AA3 DMAC0 (out), AA24 ~{CE}2 (hiz), AA25 ~{CE}0 (hiz), AA26 ~{BE}1 (hiz), AB1 DMAC1 (out), AB2 PD (out), AB25 ~{CE}3 (hiz), AB26 ~{CE}1 (hiz), AC7 ~{TRS}T (in), AC8 EMU0 (io), AC9 ED30 (io), AC10 ED27 (io), AC11 ED24 (io), AC12 ED20 (io), AC13 ED17 (io), AC14 ED15 (io), AC15 ED12 (io), AC16 ED8 (io), AC17 ED5 (io), AC18 ED2 (io), AC19 CLKOUT2 (out), AC20 ~{SDWE}/~{SSWE} (hiz), AD7 TMS (in), AD8 ED31 (io), AD9 ED28 (io), AD11 ED22 (io), AD12 ED19 (io), AD14 ED16 (io), AD15 ED13 (io), AD16 ED10 (io), AD18 ED4 (io), AD19 ED1 (io), AD20 CLKOUT1 (out), AE5 TCK (in), AE6 TDO (hiz), AE9 ED26 (io), AE10 ED23 (io), AE11 ED21 (io), AE12 ED18 (io), AE15 ED14 (io), AE16 ED11 (io), AE17 ED9 (io), AE18 ED6 (io), AE21 SDA10 (hiz), AE22 ~{SDCAS}/~{SSADS} (hiz), AF5 TDI (in), AF6 EMU1 (io), AF7 ED29 (io), AF9 ED25 (io), AF18 ED7 (io), AF20 ED3 (io), AF21 ED0 (io), AF22 ~{SDRAS}/~{SSOE} (hiz), B5 XHOLD (io), B6 XBLAST (io), B9 XFCLK (out), B10 XCNTL (in), B11 XBOFF (in), B15 CLKMODE0 (in), B16 XD30 (io), B17 XD28 (io), B18 XD25 (io), B21 XD16 (io), B22 XD13 (io), C7 ~{XBE}3/XA5 (io), C8 ~{XBE}0/XA2 (io), C9 ~{XRE} (hiz), C12 CLKIN (in), C13 PLLF, C15 RSV3 (out), C18 XD23 (io), C19 XD20 (io), C20 XD17 (io), D7 XHOLDA (io), D8 ~{XBE}2/XA4 (io), D9 ~{XAS} (io), D10 ~{XWE}/~{XWAIT} (hiz), D11 XW/R (io), D12 RSV4 (out), D13 PLLV (power), D14 PLLG (power), D15 XD31 (io), D16 XD27 (io), D17 XD24 (io), D18 XD21 (io), D19 XD18 (io), D20 XD14 (io), E1 ~{XCE}2 (hiz), E2 ~{XCE}0 (hiz), E25 XD12 (io), E26 XD10 (io), F1 TOUT0 (out), F2 ~{XCE}3 (hiz), F3 ~{XCE}1 (hiz), F24 XD11 (io), F25 XD9 (io), F26 XD6 (io), G1 CLKS1 (in), G2 TINP1 (in), G3 RSV1 (in), G24 XD8 (io), G25 XD5 (io), G26 XD3 (io), H2 CLKX1 (io), H4 TINP0 (in), H23 XD7 (io), H25 XD2 (io), J1 DX1 (hiz), J2 FSR1 (io), J3 CLKR1 (io), J4 TOUT1 (out), J23 XD4 (io), J24 XD1 (io), J25 EA21 (hiz), J26 EA20 (hiz), K2 ~{RESET} (in), K4 FSX1 (io), K23 XD0 (io), K25 EA18 (hiz), L2 NMI (in), L3 RSV0 (in), L4 DR1 (in), L23 EA19 (hiz), L24 EA17 (hiz), L25 EA16 (hiz), M2 CLKR0 (io), M3 CLKX0 (io), M4 CLKS0 (in), M23 EA15 (hiz), M24 EA14 (hiz), M25 EA13 (hiz), N3 FSR0 (io), N4 FSX0 (io), N23 EA12 (hiz), P4 DX0 (hiz), P23 EA10 (hiz), P24 EA11 (hiz), R2 DR0 (in), R3 CLKS2 (in), R4 CLKX2 (io), R23 EA7 (hiz), R24 EA8 (hiz), R25 EA9 (hiz), T2 CLKR2 (io), T3 FSX2 (io), T4 DX2 (hiz), T23 EA3 (hiz), T24 EA5 (hiz), T25 EA6 (hiz), U2 FSR2 (io), U4 INUM2 (out), U23 ~{AWE} (hiz), U25 EA4 (hiz), V1 DR2 (in), V2 INUM3 (out), V3 INUM1 (out), V4 EXT_INT7 (in), V23 ~{HOLDA} (out), V24 ~{ARE} (hiz), V25 ~{AOE} (hiz), V26 EA2 (hiz), W2 INUM0 (out), W4 EXT_INT4 (in), W23 ~{BE}2 (hiz), W25 ARDY (in), Y1 IACK (out), Y2 EXT_INT6 (in), Y3 DMAC3 (out), Y24 ~{BE}3 (hiz), Y25 ~{BE}0 (hiz), Y26 ~{HOLD} (in)
part B pins: A1 CVDD (power), A2 CVDD (power), A3 CVDD (power), A4 VSS (power), A8 VSS (power), A11 DVDD (power), A13 VSS (power), A14 VSS (power), A15 VSS (power), A16 DVDD (power), A19 VSS (power), A23 VSS (power), A24 CVDD (power), A25 CVDD (power), A26 CVDD (power), AA4 VSS (power), AA23 VSS (power), AB3 VSS (power), AB4 CVDD (power), AB23 CVDD (power), AB24 VSS (power), AC1 VSS (power), AC2 VSS (power), AC3 CVDD (power), AC4 CVDD (power), AC5 CVDD (power), AC6 VSS (power), AC21 VSS (power), AC22 CVDD (power), AC23 CVDD (power), AC24 CVDD (power), AC25 VSS (power), AC26 VSS (power), AD1 CVDD (power), AD2 CVDD (power), AD3 CVDD (power), AD4 CVDD (power), AD5 VSS (power), AD6 DVDD (power), AD10 DVDD (power), AD13 DVDD (power), AD17 DVDD (power), AD21 DVDD (power), AD22 VSS (power), AD23 CVDD (power), AD24 CVDD (power), AD25 CVDD (power), AD26 CVDD (power), AE1 CVDD (power), AE2 CVDD (power), AE3 CVDD (power), AE4 VSS (power), AE7 DVDD (power), AE8 DVDD (power), AE13 VSS (power), AE14 VSS (power), AE19 DVDD (power), AE20 DVDD (power), AE23 VSS (power), AE24 CVDD (power), AE25 CVDD (power), AE26 CVDD (power), AF1 CVDD (power), AF2 CVDD (power), AF3 CVDD (power), AF4 VSS (power), AF8 VSS (power), AF10 VSS (power), AF11 DVDD (power), AF12 VSS (power), AF13 VSS (power), AF14 VSS (power), AF15 VSS (power), AF16 DVDD (power), AF17 VSS (power), AF19 VSS (power), AF23 VSS (power), AF24 CVDD (power), AF25 CVDD (power), AF26 CVDD (power), B1 CVDD (power), B2 CVDD (power), B3 CVDD (power), B4 VSS (power), B7 DVDD (power), B8 DVDD (power), B12 VSS (power), B13 VSS (power), B14 VSS (power), B19 DVDD (power), B20 DVDD (power), B23 VSS (power), B24 CVDD (power), B25 CVDD (power), B26 CVDD (power), C1 CVDD (power), C2 CVDD (power), C3 CVDD (power), C4 CVDD (power), C5 VSS (power), C6 DVDD (power), C10 DVDD (power), C11 VSS (power), C14 DVDD (power), C16 VSS (power), C17 DVDD (power), C21 DVDD (power), C22 VSS (power), C23 CVDD (power), C24 CVDD (power), C25 CVDD (power), C26 CVDD (power), D1 VSS (power), D2 VSS (power), D3 CVDD (power), D4 CVDD (power), D5 CVDD (power), D6 VSS (power), D21 VSS (power), D22 CVDD (power), D23 CVDD (power), D24 CVDD (power), D25 VSS (power), D26 VSS (power), E3 VSS (power), E4 CVDD (power), E23 CVDD (power), E24 VSS (power), F4 VSS (power), F23 VSS (power), G4 DVDD (power), G23 DVDD (power), H1 VSS (power), H3 DVDD (power), H24 DVDD (power), H26 VSS (power), K1 VSS (power), K3 DVDD (power), K24 DVDD (power), K26 VSS (power), L1 DVDD (power), L26 DVDD (power), M1 VSS (power), M26 VSS (power), N1 VSS (power), N2 VSS (power), N24 DVDD (power), N25 VSS (power), N26 VSS (power), P1 VSS (power), P2 VSS (power), P3 DVDD (power), P25 VSS (power), P26 VSS (power), R1 VSS (power), R26 VSS (power), T1 DVDD (power), T26 DVDD (power), U1 VSS (power), U3 DVDD (power), U24 DVDD (power), U26 VSS (power), W1 VSS (power), W3 DVDD (power), W24 DVDD (power), W26 VSS (power), Y4 DVDD (power), Y23 DVDD (power)

## TMS320C6202GJL250
designator U?
Fixed-Point, 1.8/3.3V, 2000 MIPS, Multichannel/Multifunction DSP; Note: PLLV, PLLG and PLLF are not part of external voltage supply or ground.; Published: 25-Jan-2001; LatestRevisionDate: 13-Apr-2006; LatestRevisionNote: IPC-7351 Footprint Added.; DatasheetVersion: Mar-2000; PackageVersion: Feb-2000; PackageReference: GJL352; Publisher: Altium Limited; PackageDescription: 352-Ball Ball Grid Array 1 mm Pitch; ComponentLink1Description: Manufacturer Link; ComponentLink1URL: http://www.ti.com/; ComponentLink2Description: Datasheet; ComponentLink2URL: http://www-s.ti.com/sc/ds/tms320c6202.pdf
footprint GJL352 (BGA, 352-Leads, Body 27x27mm, Pitch 1mm)
3D model TMS320C6202-GJL352 (352-Ball Ball Grid Array 1 mm Pitch)
part A pins: A5 XRDY (io), A6 ~{XBE}1/XA3 (io), A7 ~{XOE} (hiz), A9 XCLKI (in), A10 ~{XCS} (in), A12 RSV2 (in), A17 XD29 (io), A18 XD26 (io), A20 XD22 (io), A21 XD19 (io), A22 XD15 (io), AA1 EXT_INT5 (in), AA2 DMAC2 (out), AA3 DMAC0 (out), AA24 ~{CE}2 (hiz), AA25 ~{CE}0 (hiz), AA26 ~{BE}1 (hiz), AB1 DMAC1 (out), AB2 PD (out), AB25 ~{CE}3 (hiz), AB26 ~{CE}1 (hiz), AC7 ~{TRS}T (in), AC8 EMU0 (io), AC9 ED30 (io), AC10 ED27 (io), AC11 ED24 (io), AC12 ED20 (io), AC13 ED17 (io), AC14 ED15 (io), AC15 ED12 (io), AC16 ED8 (io), AC17 ED5 (io), AC18 ED2 (io), AC19 CLKOUT2 (out), AC20 ~{SDWE}/~{SSWE} (hiz), AD7 TMS (in), AD8 ED31 (io), AD9 ED28 (io), AD11 ED22 (io), AD12 ED19 (io), AD14 ED16 (io), AD15 ED13 (io), AD16 ED10 (io), AD18 ED4 (io), AD19 ED1 (io), AD20 CLKOUT1 (out), AE5 TCK (in), AE6 TDO (hiz), AE9 ED26 (io), AE10 ED23 (io), AE11 ED21 (io), AE12 ED18 (io), AE15 ED14 (io), AE16 ED11 (io), AE17 ED9 (io), AE18 ED6 (io), AE21 SDA10 (hiz), AE22 ~{SDCAS}/~{SSADS} (hiz), AF5 TDI (in), AF6 EMU1 (io), AF7 ED29 (io), AF9 ED25 (io), AF18 ED7 (io), AF20 ED3 (io), AF21 ED0 (io), AF22 ~{SDRAS}/~{SSOE} (hiz), B5 XHOLD (io), B6 XBLAST (io), B9 XFCLK (out), B10 XCNTL (in), B11 XBOFF (in), B15 CLKMODE0 (in), B16 XD30 (io), B17 XD28 (io), B18 XD25 (io), B21 XD16 (io), B22 XD13 (io), C7 ~{XBE}3/XA5 (io), C8 ~{XBE}0/XA2 (io), C9 ~{XRE} (hiz), C12 CLKIN (in), C13 PLLF, C15 RSV3 (out), C18 XD23 (io), C19 XD20 (io), C20 XD17 (io), D7 XHOLDA (io), D8 ~{XBE}2/XA4 (io), D9 ~{XAS} (io), D10 ~{XWE}/~{XWAIT} (hiz), D11 XW/R (io), D12 RSV4 (out), D13 PLLV (power), D14 PLLG (power), D15 XD31 (io), D16 XD27 (io), D17 XD24 (io), D18 XD21 (io), D19 XD18 (io), D20 XD14 (io), E1 ~{XCE}2 (hiz), E2 ~{XCE}0 (hiz), E25 XD12 (io), E26 XD10 (io), F1 TOUT0 (out), F2 ~{XCE}3 (hiz), F3 ~{XCE}1 (hiz), F24 XD11 (io), F25 XD9 (io), F26 XD6 (io), G1 CLKS1 (in), G2 TINP1 (in), G3 RSV1 (in), G24 XD8 (io), G25 XD5 (io), G26 XD3 (io), H2 CLKX1 (io), H4 TINP0 (in), H23 XD7 (io), H25 XD2 (io), J1 DX1 (hiz), J2 FSR1 (io), J3 CLKR1 (io), J4 TOUT1 (out), J23 XD4 (io), J24 XD1 (io), J25 EA21 (hiz), J26 EA20 (hiz), K2 ~{RESET} (in), K4 FSX1 (io), K23 XD0 (io), K25 EA18 (hiz), L2 NMI (in), L3 RSV0 (in), L4 DR1 (in), L23 EA19 (hiz), L24 EA17 (hiz), L25 EA16 (hiz), M2 CLKR0 (io), M3 CLKX0 (io), M4 CLKS0 (in), M23 EA15 (hiz), M24 EA14 (hiz), M25 EA13 (hiz), N3 FSR0 (io), N4 FSX0 (io), N23 EA12 (hiz), P4 DX0 (hiz), P23 EA10 (hiz), P24 EA11 (hiz), R2 DR0 (in), R3 CLKS2 (in), R4 CLKX2 (io), R23 EA7 (hiz), R24 EA8 (hiz), R25 EA9 (hiz), T2 CLKR2 (io), T3 FSX2 (io), T4 DX2 (hiz), T23 EA3 (hiz), T24 EA5 (hiz), T25 EA6 (hiz), U2 FSR2 (io), U4 INUM2 (out), U23 ~{AWE} (hiz), U25 EA4 (hiz), V1 DR2 (in), V2 INUM3 (out), V3 INUM1 (out), V4 EXT_INT7 (in), V23 ~{HOLDA} (out), V24 ~{ARE} (hiz), V25 ~{AOE} (hiz), V26 EA2 (hiz), W2 INUM0 (out), W4 EXT_INT4 (in), W23 ~{BE}2 (hiz), W25 ARDY (in), Y1 IACK (out), Y2 EXT_INT6 (in), Y3 DMAC3 (out), Y24 ~{BE}3 (hiz), Y25 ~{BE}0 (hiz), Y26 ~{HOLD} (in)
part B pins: A1 CVDD (power), A2 CVDD (power), A3 CVDD (power), A4 VSS (power), A8 VSS (power), A11 DVDD (power), A13 VSS (power), A14 VSS (power), A15 VSS (power), A16 DVDD (power), A19 VSS (power), A23 VSS (power), A24 CVDD (power), A25 CVDD (power), A26 CVDD (power), AA4 VSS (power), AA23 VSS (power), AB3 VSS (power), AB4 CVDD (power), AB23 CVDD (power), AB24 VSS (power), AC1 VSS (power), AC2 VSS (power), AC3 CVDD (power), AC4 CVDD (power), AC5 CVDD (power), AC6 VSS (power), AC21 VSS (power), AC22 CVDD (power), AC23 CVDD (power), AC24 CVDD (power), AC25 VSS (power), AC26 VSS (power), AD1 CVDD (power), AD2 CVDD (power), AD3 CVDD (power), AD4 CVDD (power), AD5 VSS (power), AD6 DVDD (power), AD10 DVDD (power), AD13 DVDD (power), AD17 DVDD (power), AD21 DVDD (power), AD22 VSS (power), AD23 CVDD (power), AD24 CVDD (power), AD25 CVDD (power), AD26 CVDD (power), AE1 CVDD (power), AE2 CVDD (power), AE3 CVDD (power), AE4 VSS (power), AE7 DVDD (power), AE8 DVDD (power), AE13 VSS (power), AE14 VSS (power), AE19 DVDD (power), AE20 DVDD (power), AE23 VSS (power), AE24 CVDD (power), AE25 CVDD (power), AE26 CVDD (power), AF1 CVDD (power), AF2 CVDD (power), AF3 CVDD (power), AF4 VSS (power), AF8 VSS (power), AF10 VSS (power), AF11 DVDD (power), AF12 VSS (power), AF13 VSS (power), AF14 VSS (power), AF15 VSS (power), AF16 DVDD (power), AF17 VSS (power), AF19 VSS (power), AF23 VSS (power), AF24 CVDD (power), AF25 CVDD (power), AF26 CVDD (power), B1 CVDD (power), B2 CVDD (power), B3 CVDD (power), B4 VSS (power), B7 DVDD (power), B8 DVDD (power), B12 VSS (power), B13 VSS (power), B14 VSS (power), B19 DVDD (power), B20 DVDD (power), B23 VSS (power), B24 CVDD (power), B25 CVDD (power), B26 CVDD (power), C1 CVDD (power), C2 CVDD (power), C3 CVDD (power), C4 CVDD (power), C5 VSS (power), C6 DVDD (power), C10 DVDD (power), C11 VSS (power), C14 DVDD (power), C16 VSS (power), C17 DVDD (power), C21 DVDD (power), C22 VSS (power), C23 CVDD (power), C24 CVDD (power), C25 CVDD (power), C26 CVDD (power), D1 VSS (power), D2 VSS (power), D3 CVDD (power), D4 CVDD (power), D5 CVDD (power), D6 VSS (power), D21 VSS (power), D22 CVDD (power), D23 CVDD (power), D24 CVDD (power), D25 VSS (power), D26 VSS (power), E3 VSS (power), E4 CVDD (power), E23 CVDD (power), E24 VSS (power), F4 VSS (power), F23 VSS (power), G4 DVDD (power), G23 DVDD (power), H1 VSS (power), H3 DVDD (power), H24 DVDD (power), H26 VSS (power), K1 VSS (power), K3 DVDD (power), K24 DVDD (power), K26 VSS (power), L1 DVDD (power), L26 DVDD (power), M1 VSS (power), M26 VSS (power), N1 VSS (power), N2 VSS (power), N24 DVDD (power), N25 VSS (power), N26 VSS (power), P1 VSS (power), P2 VSS (power), P3 DVDD (power), P25 VSS (power), P26 VSS (power), R1 VSS (power), R26 VSS (power), T1 DVDD (power), T26 DVDD (power), U1 VSS (power), U3 DVDD (power), U24 DVDD (power), U26 VSS (power), W1 VSS (power), W3 DVDD (power), W24 DVDD (power), W26 VSS (power), Y4 DVDD (power), Y23 DVDD (power)

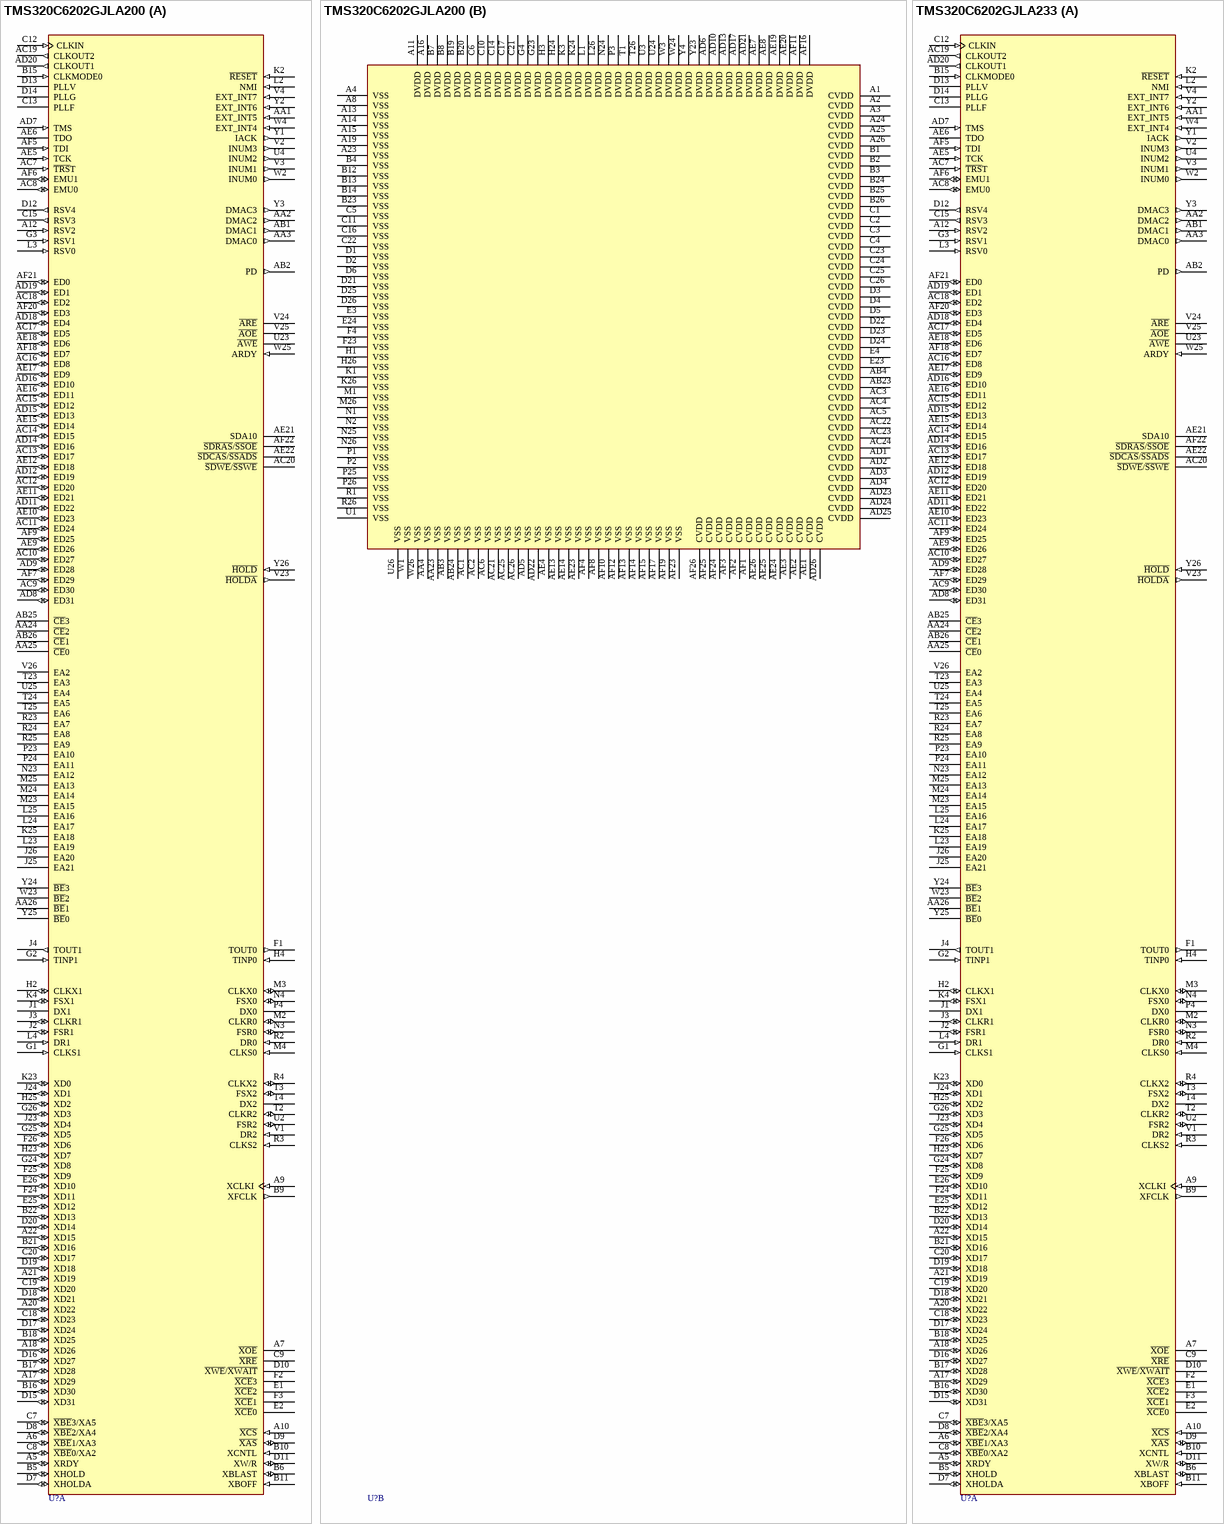
[diagram p115: symbols TMS320C6202GJLA200 to TMS320C6202GJLA233]